# Altium schematic symbol library MCU_Microchip_ATmega.SchLib: 440 symbols (part 4 of 9)
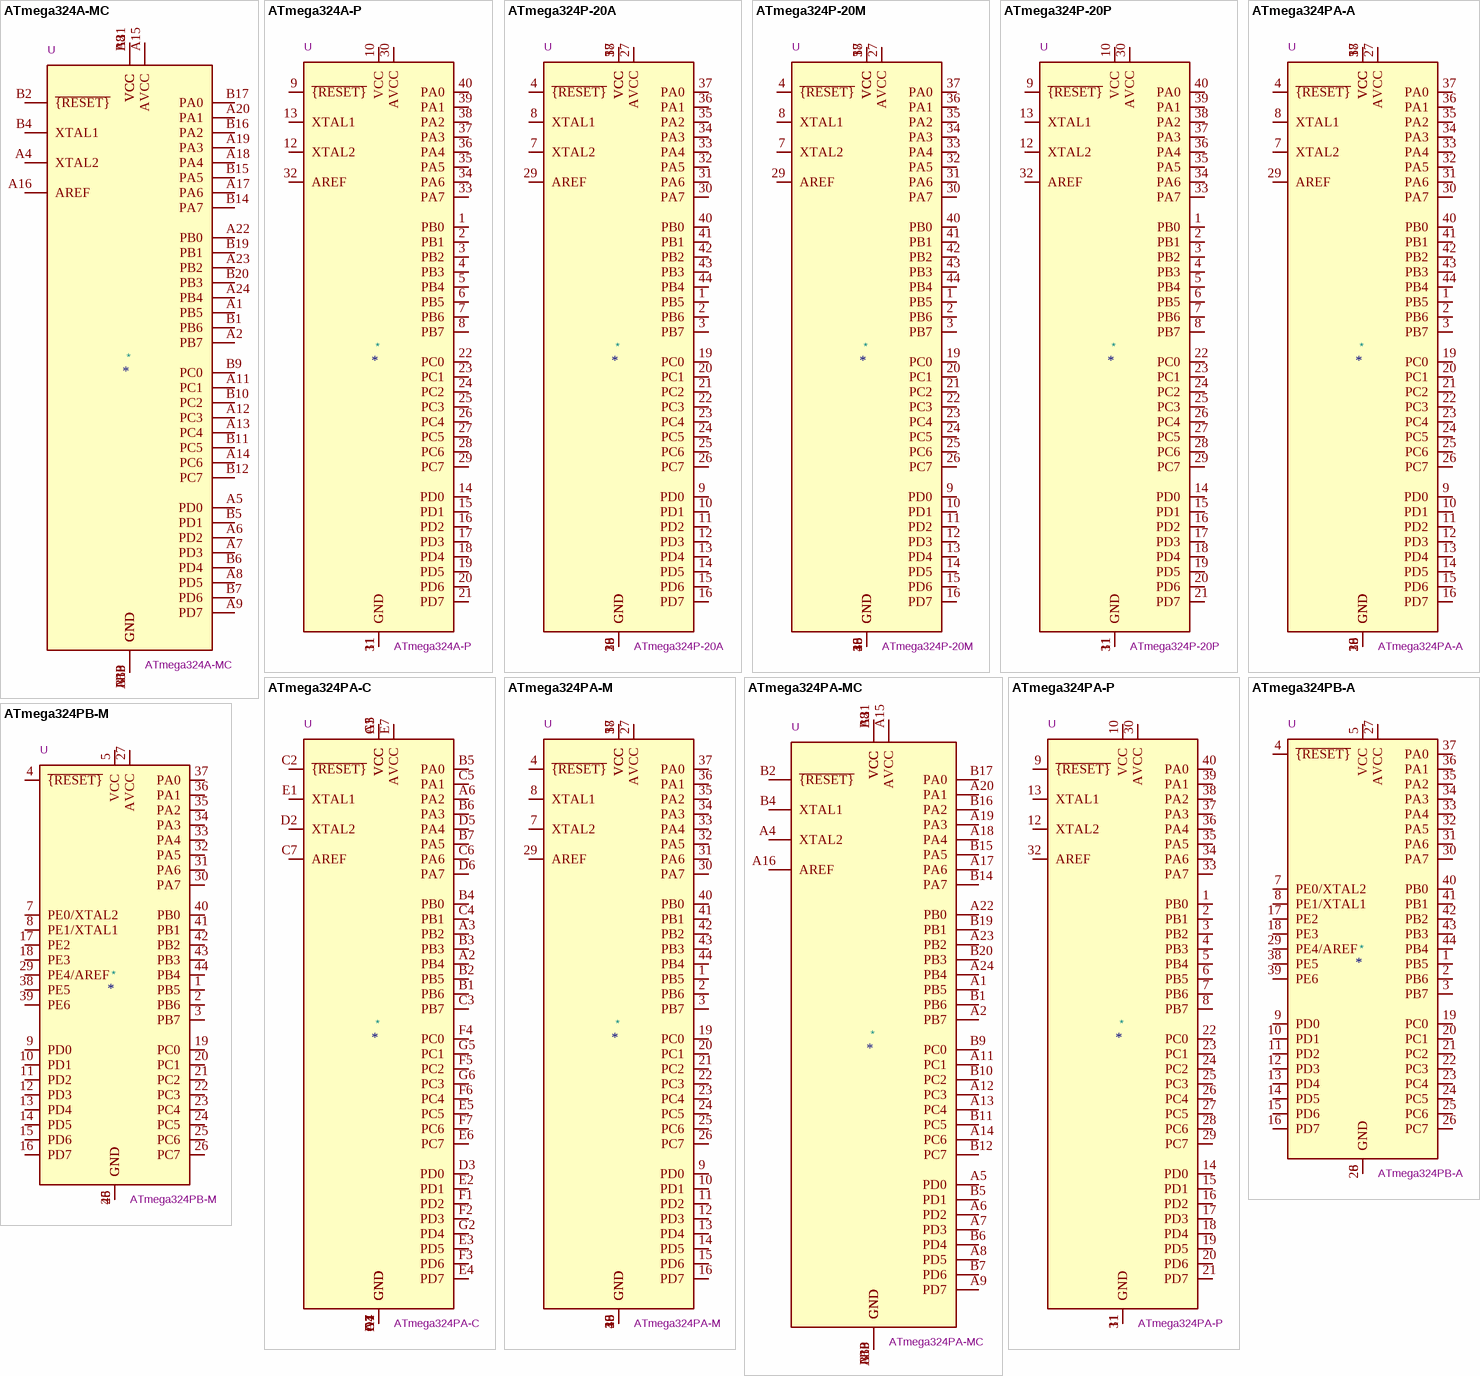
[diagram p43: symbols ATmega324A-MC to ATmega324PB-M]

## ATmega324PA-P
designator *  value ATmega324PA-P  Reference: U
20MHz, 32kB Flash, 2kB SRAM, 1kB EEPROM, JTAG, DIP-40; ki_keywords: AVR 8bit Microcontroller MegaAVR PicoPower; ki_fp_filters: DIP*W15.24mm*; Footprint: Package_DIP:DIP-40_W15.24mm; Datasheet: http://ww1.microchip.com/downloads/en/DeviceDoc/Atmel-8272-8-bit-AVR-microcontroller-ATmega164A_PA-324A_PA-644A_PA-1284_P_datasheet.pdf; Description_: 20MHz, 32kB Flash, 2kB SRAM, 1kB EEPROM, JTAG, DIP-40
pins: 1 PB0, 2 PB1, 3 PB2, 4 PB3, 5 PB4, 6 PB5, 7 PB6, 8 PB7, 9 ~{{RESET}}, 10 VCC, 11 GND, 12 XTAL2, 13 XTAL1, 14 PD0, 15 PD1, 16 PD2, 17 PD3, 18 PD4, 19 PD5, 20 PD6, 21 PD7, 22 PC0, 23 PC1, 24 PC2, 25 PC3, 26 PC4, 27 PC5, 28 PC6, 29 PC7, 30 AVCC, 31 GND, 32 AREF, 33 PA7, 34 PA6, 35 PA5, 36 PA4, 37 PA3, 38 PA2, 39 PA1, 40 PA0

## ATmega324PB-A
designator *  value ATmega324PB-A  Reference: U
20MHz, 32kB Flash, 2kB SRAM, 1kB EEPROM, JTAG, TQFP-44; ki_keywords: AVR 8bit Microcontroller MegaAVR PicoPower; ki_fp_filters: TQFP*10x10mm*P0.8mm*; Footprint: Package_QFP:TQFP-44_10x10mm_P0.8mm; Datasheet: http://ww1.microchip.com/downloads/en/DeviceDoc/40001908A.pdf; Description_: 20MHz, 32kB Flash, 2kB SRAM, 1kB EEPROM, JTAG, TQFP-44
pins: 1 PB5, 2 PB6, 3 PB7, 4 ~{{RESET}}, 5 VCC, 6 GND, 7 PE0/XTAL2, 8 PE1/XTAL1, 9 PD0, 10 PD1, 11 PD2, 12 PD3, 13 PD4, 14 PD5, 15 PD6, 16 PD7, 17 PE2, 18 PE3, 19 PC0, 20 PC1, 21 PC2, 22 PC3, 23 PC4, 24 PC5, 25 PC6, 26 PC7, 27 AVCC, 28 GND, 29 PE4/AREF, 30 PA7, 31 PA6, 32 PA5, 33 PA4, 34 PA3, 35 PA2, 36 PA1, 37 PA0, 38 PE5, 39 PE6, 40 PB0, 41 PB1, 42 PB2, 43 PB3, 44 PB4

## ATmega324PB-M
designator *  value ATmega324PB-M  Reference: U
20MHz, 32kB Flash, 2kB SRAM, 1kB EEPROM, JTAG, QFN-44; ki_keywords: AVR 8bit Microcontroller MegaAVR PicoPower; ki_fp_filters: QFN*7x7mm*P0.5mm*; Footprint: Package_DFN_QFN:QFN-44-1EP_7x7mm_P0.5mm_EP5.2x5.2mm; Datasheet: http://ww1.microchip.com/downloads/en/DeviceDoc/40001908A.pdf; Description_: 20MHz, 32kB Flash, 2kB SRAM, 1kB EEPROM, JTAG, QFN-44
pins: 1 PB5, 2 PB6, 3 PB7, 4 ~{{RESET}}, 5 VCC, 6 GND, 7 PE0/XTAL2, 8 PE1/XTAL1, 9 PD0, 10 PD1, 11 PD2, 12 PD3, 13 PD4, 14 PD5, 15 PD6, 16 PD7, 17 PE2, 18 PE3, 19 PC0, 20 PC1, 21 PC2, 22 PC3, 23 PC4, 24 PC5, 25 PC6, 26 PC7, 27 AVCC, 28 GND, 29 PE4/AREF, 30 PA7, 31 PA6, 32 PA5, 33 PA4, 34 PA3, 35 PA2, 36 PA1, 37 PA0, 38 PE5, 39 PE6, 40 PB0, 41 PB1, 42 PB2, 43 PB3, 44 PB4, 45 GND

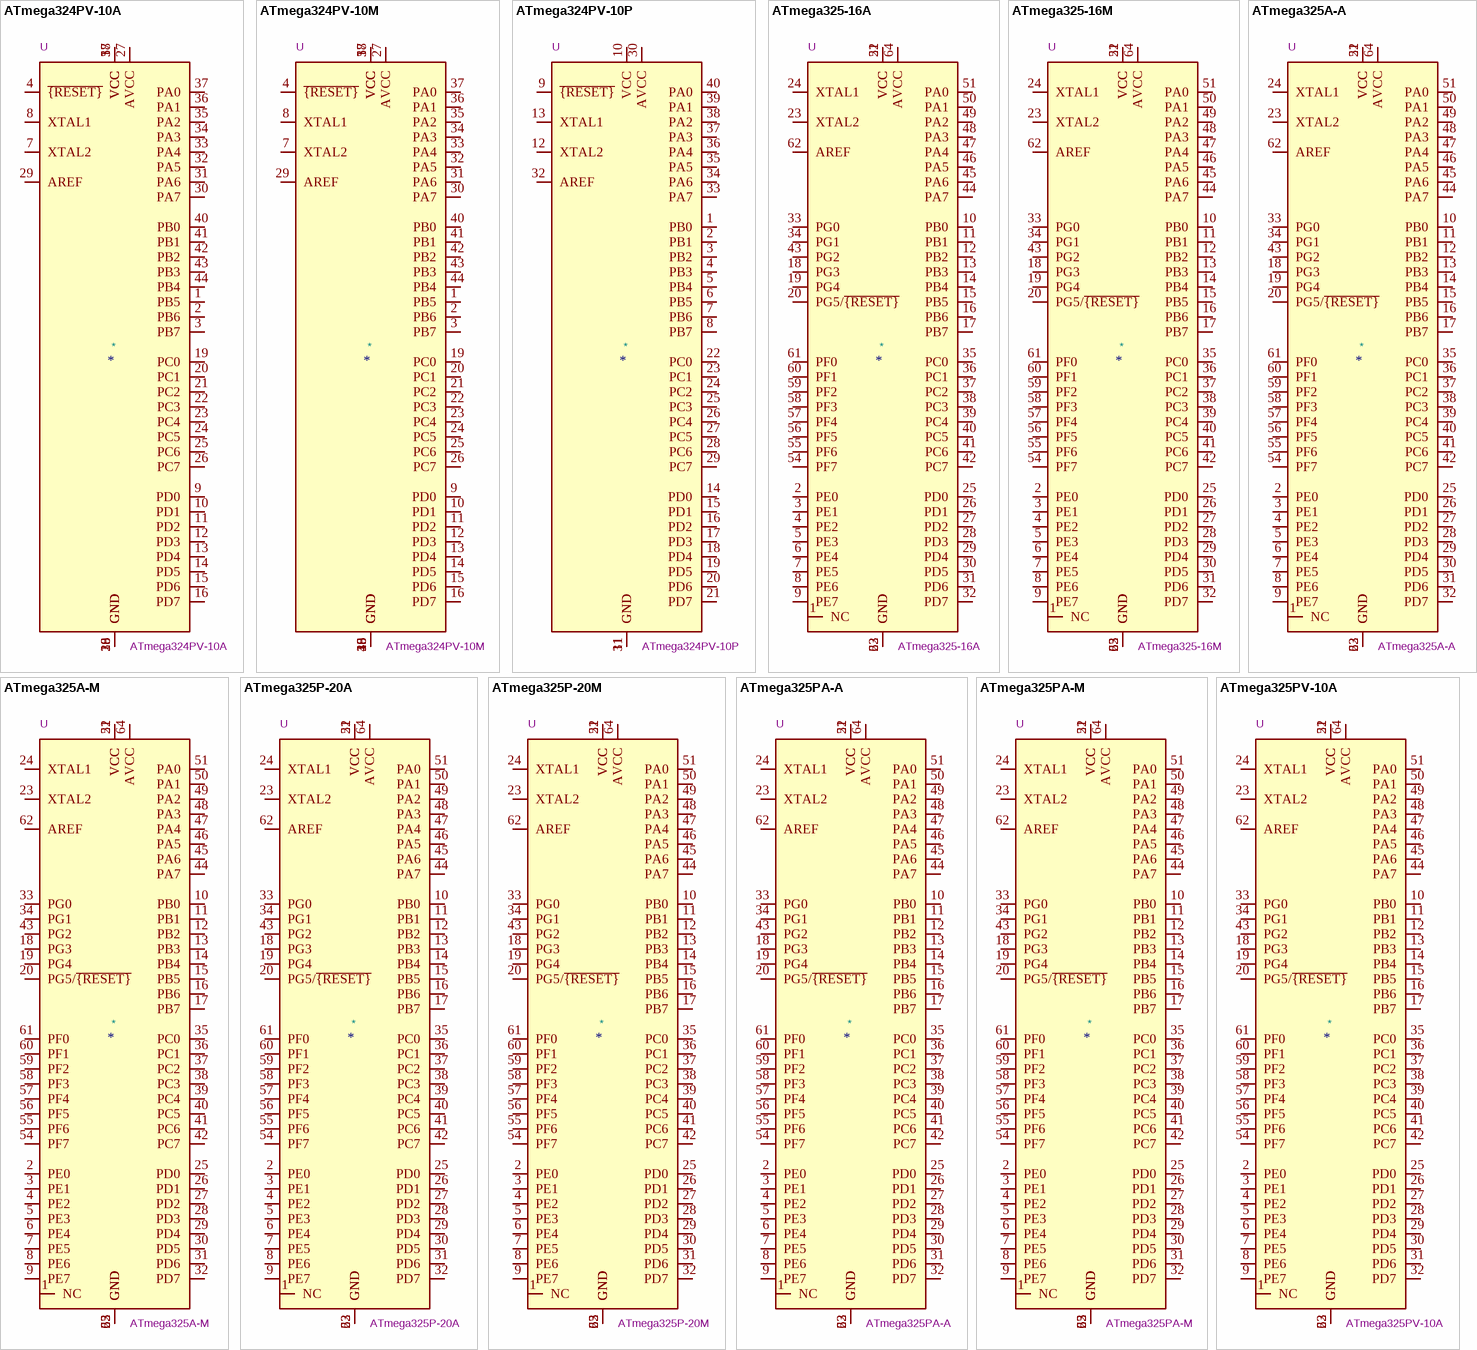
[diagram p15: symbols ATmega324PV-10A to ATmega325PV-10A]

## ATmega324PV-10A
designator *  value ATmega324PV-10A  Reference: U
10MHz, 32kB Flash, 2kB SRAM, 1kB EEPROM, JTAG, TQFP-44; ki_keywords: AVR 8bit Microcontroller MegaAVR PicoPower; ki_fp_filters: TQFP*10x10mm*P0.8mm*; Footprint: Package_QFP:TQFP-44_10x10mm_P0.8mm; Datasheet: http://ww1.microchip.com/downloads/en/DeviceDoc/Atmel-42743-ATmega324P_Datasheet.pdf; Description_: 10MHz, 32kB Flash, 2kB SRAM, 1kB EEPROM, JTAG, TQFP-44
pins: 1 PB5, 2 PB6, 3 PB7, 4 ~{{RESET}}, 5 VCC, 6 GND, 7 XTAL2, 8 XTAL1, 9 PD0, 10 PD1, 11 PD2, 12 PD3, 13 PD4, 14 PD5, 15 PD6, 16 PD7, 17 VCC, 18 GND, 19 PC0, 20 PC1, 21 PC2, 22 PC3, 23 PC4, 24 PC5, 25 PC6, 26 PC7, 27 AVCC, 28 GND, 29 AREF, 30 PA7, 31 PA6, 32 PA5, 33 PA4, 34 PA3, 35 PA2, 36 PA1, 37 PA0, 38 VCC, 39 GND, 40 PB0, 41 PB1, 42 PB2, 43 PB3, 44 PB4

## ATmega324PV-10M
designator *  value ATmega324PV-10M  Reference: U
10MHz, 32kB Flash, 2kB SRAM, 1kB EEPROM, JTAG, QFN-44; ki_keywords: AVR 8bit Microcontroller MegaAVR PicoPower; ki_fp_filters: QFN*1EP*7x7mm*P0.5mm*; Footprint: Package_DFN_QFN:QFN-44-1EP_7x7mm_P0.5mm_EP5.2x5.2mm; Datasheet: http://ww1.microchip.com/downloads/en/DeviceDoc/Atmel-42743-ATmega324P_Datasheet.pdf; Description_: 10MHz, 32kB Flash, 2kB SRAM, 1kB EEPROM, JTAG, QFN-44
pins: 1 PB5, 2 PB6, 3 PB7, 4 ~{{RESET}}, 5 VCC, 6 GND, 7 XTAL2, 8 XTAL1, 9 PD0, 10 PD1, 11 PD2, 12 PD3, 13 PD4, 14 PD5, 15 PD6, 16 PD7, 17 VCC, 18 GND, 19 PC0, 20 PC1, 21 PC2, 22 PC3, 23 PC4, 24 PC5, 25 PC6, 26 PC7, 27 AVCC, 28 GND, 29 AREF, 30 PA7, 31 PA6, 32 PA5, 33 PA4, 34 PA3, 35 PA2, 36 PA1, 37 PA0, 38 VCC, 39 GND, 40 PB0, 41 PB1, 42 PB2, 43 PB3, 44 PB4, 45 GND

## ATmega324PV-10P
designator *  value ATmega324PV-10P  Reference: U
10MHz, 32kB Flash, 2kB SRAM, 1kB EEPROM, JTAG, DIP-40; ki_keywords: AVR 8bit Microcontroller MegaAVR PicoPower; ki_fp_filters: DIP*W15.24mm*; Footprint: Package_DIP:DIP-40_W15.24mm; Datasheet: http://ww1.microchip.com/downloads/en/DeviceDoc/Atmel-42743-ATmega324P_Datasheet.pdf; Description_: 10MHz, 32kB Flash, 2kB SRAM, 1kB EEPROM, JTAG, DIP-40
pins: 1 PB0, 2 PB1, 3 PB2, 4 PB3, 5 PB4, 6 PB5, 7 PB6, 8 PB7, 9 ~{{RESET}}, 10 VCC, 11 GND, 12 XTAL2, 13 XTAL1, 14 PD0, 15 PD1, 16 PD2, 17 PD3, 18 PD4, 19 PD5, 20 PD6, 21 PD7, 22 PC0, 23 PC1, 24 PC2, 25 PC3, 26 PC4, 27 PC5, 28 PC6, 29 PC7, 30 AVCC, 31 GND, 32 AREF, 33 PA7, 34 PA6, 35 PA5, 36 PA4, 37 PA3, 38 PA2, 39 PA1, 40 PA0

## ATmega325-16A
designator *  value ATmega325-16A  Reference: U
16MHz, 32kB Flash, 2kB SRAM, 1kB EEPROM, JTAG, TQFP-64; ki_keywords: AVR 8bit Microcontroller MegaAVR; ki_fp_filters: TQFP*14x14mm*P0.8mm*; Footprint: Package_QFP:TQFP-64_14x14mm_P0.8mm; Datasheet: http://ww1.microchip.com/downloads/en/DeviceDoc/doc2570.pdf; Description_: 16MHz, 32kB Flash, 2kB SRAM, 1kB EEPROM, JTAG, TQFP-64
pins: 1 NC, 2 PE0, 3 PE1, 4 PE2, 5 PE3, 6 PE4, 7 PE5, 8 PE6, 9 PE7, 10 PB0, 11 PB1, 12 PB2, 13 PB3, 14 PB4, 15 PB5, 16 PB6, 17 PB7, 18 PG3, 19 PG4, 20 PG5/~{{RESET}}, 21 VCC, 22 GND, 23 XTAL2, 24 XTAL1, 25 PD0, 26 PD1, 27 PD2, 28 PD3, 29 PD4, 30 PD5, 31 PD6, 32 PD7, 33 PG0, 34 PG1, 35 PC0, 36 PC1, 37 PC2, 38 PC3, 39 PC4, 40 PC5, 41 PC6, 42 PC7, 43 PG2, 44 PA7, 45 PA6, 46 PA5, 47 PA4, 48 PA3, 49 PA2, 50 PA1, 51 PA0, 52 VCC, 53 GND, 54 PF7, 55 PF6, 56 PF5, 57 PF4, 58 PF3, 59 PF2, 60 PF1, 61 PF0, 62 AREF, 63 GND, 64 AVCC

## ATmega325-16M
designator *  value ATmega325-16M  Reference: U
16MHz, 32kB Flash, 2kB SRAM, 1kB EEPROM, JTAG, QFN-64; ki_keywords: AVR 8bit Microcontroller MegaAVR; ki_fp_filters: QFN*1EP*9x9mm*P0.5mm*; Footprint: Package_DFN_QFN:QFN-64-1EP_9x9mm_P0.5mm_EP5.4x5.4mm; Datasheet: http://ww1.microchip.com/downloads/en/DeviceDoc/doc2570.pdf; Description_: 16MHz, 32kB Flash, 2kB SRAM, 1kB EEPROM, JTAG, QFN-64
pins: 1 NC, 2 PE0, 3 PE1, 4 PE2, 5 PE3, 6 PE4, 7 PE5, 8 PE6, 9 PE7, 10 PB0, 11 PB1, 12 PB2, 13 PB3, 14 PB4, 15 PB5, 16 PB6, 17 PB7, 18 PG3, 19 PG4, 20 PG5/~{{RESET}}, 21 VCC, 22 GND, 23 XTAL2, 24 XTAL1, 25 PD0, 26 PD1, 27 PD2, 28 PD3, 29 PD4, 30 PD5, 31 PD6, 32 PD7, 33 PG0, 34 PG1, 35 PC0, 36 PC1, 37 PC2, 38 PC3, 39 PC4, 40 PC5, 41 PC6, 42 PC7, 43 PG2, 44 PA7, 45 PA6, 46 PA5, 47 PA4, 48 PA3, 49 PA2, 50 PA1, 51 PA0, 52 VCC, 53 GND, 54 PF7, 55 PF6, 56 PF5, 57 PF4, 58 PF3, 59 PF2, 60 PF1, 61 PF0, 62 AREF, 63 GND, 64 AVCC, 65 GND

## ATmega325A-A
designator *  value ATmega325A-A  Reference: U
20MHz, 32kB Flash, 2kB SRAM, 1kB EEPROM, TQFP-64; ki_keywords: AVR 8bit Microcontroller MegaAVR PicoPower; ki_fp_filters: TQFP*14x14mm*P0.8mm*; Footprint: Package_QFP:TQFP-64_14x14mm_P0.8mm; Datasheet: http://ww1.microchip.com/downloads/en/DeviceDoc/atmel-8285-8-bit-avr-microcontroller-atmega165a_pa_325a_pa_3250a_pa_645a_p_6450a_p_datasheet.pdf; Description_: 20MHz, 32kB Flash, 2kB SRAM, 1kB EEPROM, TQFP-64
pins: 1 NC, 2 PE0, 3 PE1, 4 PE2, 5 PE3, 6 PE4, 7 PE5, 8 PE6, 9 PE7, 10 PB0, 11 PB1, 12 PB2, 13 PB3, 14 PB4, 15 PB5, 16 PB6, 17 PB7, 18 PG3, 19 PG4, 20 PG5/~{{RESET}}, 21 VCC, 22 GND, 23 XTAL2, 24 XTAL1, 25 PD0, 26 PD1, 27 PD2, 28 PD3, 29 PD4, 30 PD5, 31 PD6, 32 PD7, 33 PG0, 34 PG1, 35 PC0, 36 PC1, 37 PC2, 38 PC3, 39 PC4, 40 PC5, 41 PC6, 42 PC7, 43 PG2, 44 PA7, 45 PA6, 46 PA5, 47 PA4, 48 PA3, 49 PA2, 50 PA1, 51 PA0, 52 VCC, 53 GND, 54 PF7, 55 PF6, 56 PF5, 57 PF4, 58 PF3, 59 PF2, 60 PF1, 61 PF0, 62 AREF, 63 GND, 64 AVCC

## ATmega325A-M
designator *  value ATmega325A-M  Reference: U
20MHz, 32kB Flash, 2kB SRAM, 1kB EEPROM, QFN-64; ki_keywords: AVR 8bit Microcontroller MegaAVR PicoPower; ki_fp_filters: QFN*1EP*9x9mm*P0.5mm*; Footprint: Package_DFN_QFN:QFN-64-1EP_9x9mm_P0.5mm_EP5.4x5.4mm; Datasheet: http://ww1.microchip.com/downloads/en/DeviceDoc/atmel-8285-8-bit-avr-microcontroller-atmega165a_pa_325a_pa_3250a_pa_645a_p_6450a_p_datasheet.pdf; Description_: 20MHz, 32kB Flash, 2kB SRAM, 1kB EEPROM, QFN-64
pins: 1 NC, 2 PE0, 3 PE1, 4 PE2, 5 PE3, 6 PE4, 7 PE5, 8 PE6, 9 PE7, 10 PB0, 11 PB1, 12 PB2, 13 PB3, 14 PB4, 15 PB5, 16 PB6, 17 PB7, 18 PG3, 19 PG4, 20 PG5/~{{RESET}}, 21 VCC, 22 GND, 23 XTAL2, 24 XTAL1, 25 PD0, 26 PD1, 27 PD2, 28 PD3, 29 PD4, 30 PD5, 31 PD6, 32 PD7, 33 PG0, 34 PG1, 35 PC0, 36 PC1, 37 PC2, 38 PC3, 39 PC4, 40 PC5, 41 PC6, 42 PC7, 43 PG2, 44 PA7, 45 PA6, 46 PA5, 47 PA4, 48 PA3, 49 PA2, 50 PA1, 51 PA0, 52 VCC, 53 GND, 54 PF7, 55 PF6, 56 PF5, 57 PF4, 58 PF3, 59 PF2, 60 PF1, 61 PF0, 62 AREF, 63 GND, 64 AVCC, 65 GND

## ATmega325P-20A
designator *  value ATmega325P-20A  Reference: U
20MHz, 32kB Flash, 2kB SRAM, 1kB EEPROM, JTAG, TQFP-64; ki_keywords: AVR 8bit Microcontroller MegaAVR; ki_fp_filters: TQFP*14x14mm*P0.8mm*; Footprint: Package_QFP:TQFP-64_14x14mm_P0.8mm; Datasheet: http://ww1.microchip.com/downloads/en/DeviceDoc/doc8023.pdf; Description_: 20MHz, 32kB Flash, 2kB SRAM, 1kB EEPROM, JTAG, TQFP-64
pins: 1 NC, 2 PE0, 3 PE1, 4 PE2, 5 PE3, 6 PE4, 7 PE5, 8 PE6, 9 PE7, 10 PB0, 11 PB1, 12 PB2, 13 PB3, 14 PB4, 15 PB5, 16 PB6, 17 PB7, 18 PG3, 19 PG4, 20 PG5/~{{RESET}}, 21 VCC, 22 GND, 23 XTAL2, 24 XTAL1, 25 PD0, 26 PD1, 27 PD2, 28 PD3, 29 PD4, 30 PD5, 31 PD6, 32 PD7, 33 PG0, 34 PG1, 35 PC0, 36 PC1, 37 PC2, 38 PC3, 39 PC4, 40 PC5, 41 PC6, 42 PC7, 43 PG2, 44 PA7, 45 PA6, 46 PA5, 47 PA4, 48 PA3, 49 PA2, 50 PA1, 51 PA0, 52 VCC, 53 GND, 54 PF7, 55 PF6, 56 PF5, 57 PF4, 58 PF3, 59 PF2, 60 PF1, 61 PF0, 62 AREF, 63 GND, 64 AVCC

## ATmega325P-20M
designator *  value ATmega325P-20M  Reference: U
20MHz, 32kB Flash, 2kB SRAM, 1kB EEPROM, JTAG, QFN-64; ki_keywords: AVR 8bit Microcontroller MegaAVR; ki_fp_filters: QFN*1EP*9x9mm*P0.5mm*; Footprint: Package_DFN_QFN:QFN-64-1EP_9x9mm_P0.5mm_EP5.4x5.4mm; Datasheet: http://ww1.microchip.com/downloads/en/DeviceDoc/doc8023.pdf; Description_: 20MHz, 32kB Flash, 2kB SRAM, 1kB EEPROM, JTAG, QFN-64
pins: 1 NC, 2 PE0, 3 PE1, 4 PE2, 5 PE3, 6 PE4, 7 PE5, 8 PE6, 9 PE7, 10 PB0, 11 PB1, 12 PB2, 13 PB3, 14 PB4, 15 PB5, 16 PB6, 17 PB7, 18 PG3, 19 PG4, 20 PG5/~{{RESET}}, 21 VCC, 22 GND, 23 XTAL2, 24 XTAL1, 25 PD0, 26 PD1, 27 PD2, 28 PD3, 29 PD4, 30 PD5, 31 PD6, 32 PD7, 33 PG0, 34 PG1, 35 PC0, 36 PC1, 37 PC2, 38 PC3, 39 PC4, 40 PC5, 41 PC6, 42 PC7, 43 PG2, 44 PA7, 45 PA6, 46 PA5, 47 PA4, 48 PA3, 49 PA2, 50 PA1, 51 PA0, 52 VCC, 53 GND, 54 PF7, 55 PF6, 56 PF5, 57 PF4, 58 PF3, 59 PF2, 60 PF1, 61 PF0, 62 AREF, 63 GND, 64 AVCC, 65 GND

## ATmega325PA-A
designator *  value ATmega325PA-A  Reference: U
20MHz, 32kB Flash, 2kB SRAM, 1kB EEPROM, TQFP-64; ki_keywords: AVR 8bit Microcontroller MegaAVR PicoPower; ki_fp_filters: TQFP*14x14mm*P0.8mm*; Footprint: Package_QFP:TQFP-64_14x14mm_P0.8mm; Datasheet: http://ww1.microchip.com/downloads/en/DeviceDoc/atmel-8285-8-bit-avr-microcontroller-atmega165a_pa_325a_pa_3250a_pa_645a_p_6450a_p_datasheet.pdf; Description_: 20MHz, 32kB Flash, 2kB SRAM, 1kB EEPROM, TQFP-64
pins: 1 NC, 2 PE0, 3 PE1, 4 PE2, 5 PE3, 6 PE4, 7 PE5, 8 PE6, 9 PE7, 10 PB0, 11 PB1, 12 PB2, 13 PB3, 14 PB4, 15 PB5, 16 PB6, 17 PB7, 18 PG3, 19 PG4, 20 PG5/~{{RESET}}, 21 VCC, 22 GND, 23 XTAL2, 24 XTAL1, 25 PD0, 26 PD1, 27 PD2, 28 PD3, 29 PD4, 30 PD5, 31 PD6, 32 PD7, 33 PG0, 34 PG1, 35 PC0, 36 PC1, 37 PC2, 38 PC3, 39 PC4, 40 PC5, 41 PC6, 42 PC7, 43 PG2, 44 PA7, 45 PA6, 46 PA5, 47 PA4, 48 PA3, 49 PA2, 50 PA1, 51 PA0, 52 VCC, 53 GND, 54 PF7, 55 PF6, 56 PF5, 57 PF4, 58 PF3, 59 PF2, 60 PF1, 61 PF0, 62 AREF, 63 GND, 64 AVCC

## ATmega325PA-M
designator *  value ATmega325PA-M  Reference: U
20MHz, 32kB Flash, 2kB SRAM, 1kB EEPROM, QFN-64; ki_keywords: AVR 8bit Microcontroller MegaAVR PicoPower; ki_fp_filters: QFN*1EP*9x9mm*P0.5mm*; Footprint: Package_DFN_QFN:QFN-64-1EP_9x9mm_P0.5mm_EP5.4x5.4mm; Datasheet: http://ww1.microchip.com/downloads/en/DeviceDoc/atmel-8285-8-bit-avr-microcontroller-atmega165a_pa_325a_pa_3250a_pa_645a_p_6450a_p_datasheet.pdf; Description_: 20MHz, 32kB Flash, 2kB SRAM, 1kB EEPROM, QFN-64
pins: 1 NC, 2 PE0, 3 PE1, 4 PE2, 5 PE3, 6 PE4, 7 PE5, 8 PE6, 9 PE7, 10 PB0, 11 PB1, 12 PB2, 13 PB3, 14 PB4, 15 PB5, 16 PB6, 17 PB7, 18 PG3, 19 PG4, 20 PG5/~{{RESET}}, 21 VCC, 22 GND, 23 XTAL2, 24 XTAL1, 25 PD0, 26 PD1, 27 PD2, 28 PD3, 29 PD4, 30 PD5, 31 PD6, 32 PD7, 33 PG0, 34 PG1, 35 PC0, 36 PC1, 37 PC2, 38 PC3, 39 PC4, 40 PC5, 41 PC6, 42 PC7, 43 PG2, 44 PA7, 45 PA6, 46 PA5, 47 PA4, 48 PA3, 49 PA2, 50 PA1, 51 PA0, 52 VCC, 53 GND, 54 PF7, 55 PF6, 56 PF5, 57 PF4, 58 PF3, 59 PF2, 60 PF1, 61 PF0, 62 AREF, 63 GND, 64 AVCC, 65 GND

## ATmega325PV-10A
designator *  value ATmega325PV-10A  Reference: U
10MHz, 32kB Flash, 2kB SRAM, 1kB EEPROM, JTAG, TQFP-64; ki_keywords: AVR 8bit Microcontroller MegaAVR; ki_fp_filters: TQFP*14x14mm*P0.8mm*; Footprint: Package_QFP:TQFP-64_14x14mm_P0.8mm; Datasheet: http://ww1.microchip.com/downloads/en/DeviceDoc/doc8023.pdf; Description_: 10MHz, 32kB Flash, 2kB SRAM, 1kB EEPROM, JTAG, TQFP-64
pins: 1 NC, 2 PE0, 3 PE1, 4 PE2, 5 PE3, 6 PE4, 7 PE5, 8 PE6, 9 PE7, 10 PB0, 11 PB1, 12 PB2, 13 PB3, 14 PB4, 15 PB5, 16 PB6, 17 PB7, 18 PG3, 19 PG4, 20 PG5/~{{RESET}}, 21 VCC, 22 GND, 23 XTAL2, 24 XTAL1, 25 PD0, 26 PD1, 27 PD2, 28 PD3, 29 PD4, 30 PD5, 31 PD6, 32 PD7, 33 PG0, 34 PG1, 35 PC0, 36 PC1, 37 PC2, 38 PC3, 39 PC4, 40 PC5, 41 PC6, 42 PC7, 43 PG2, 44 PA7, 45 PA6, 46 PA5, 47 PA4, 48 PA3, 49 PA2, 50 PA1, 51 PA0, 52 VCC, 53 GND, 54 PF7, 55 PF6, 56 PF5, 57 PF4, 58 PF3, 59 PF2, 60 PF1, 61 PF0, 62 AREF, 63 GND, 64 AVCC

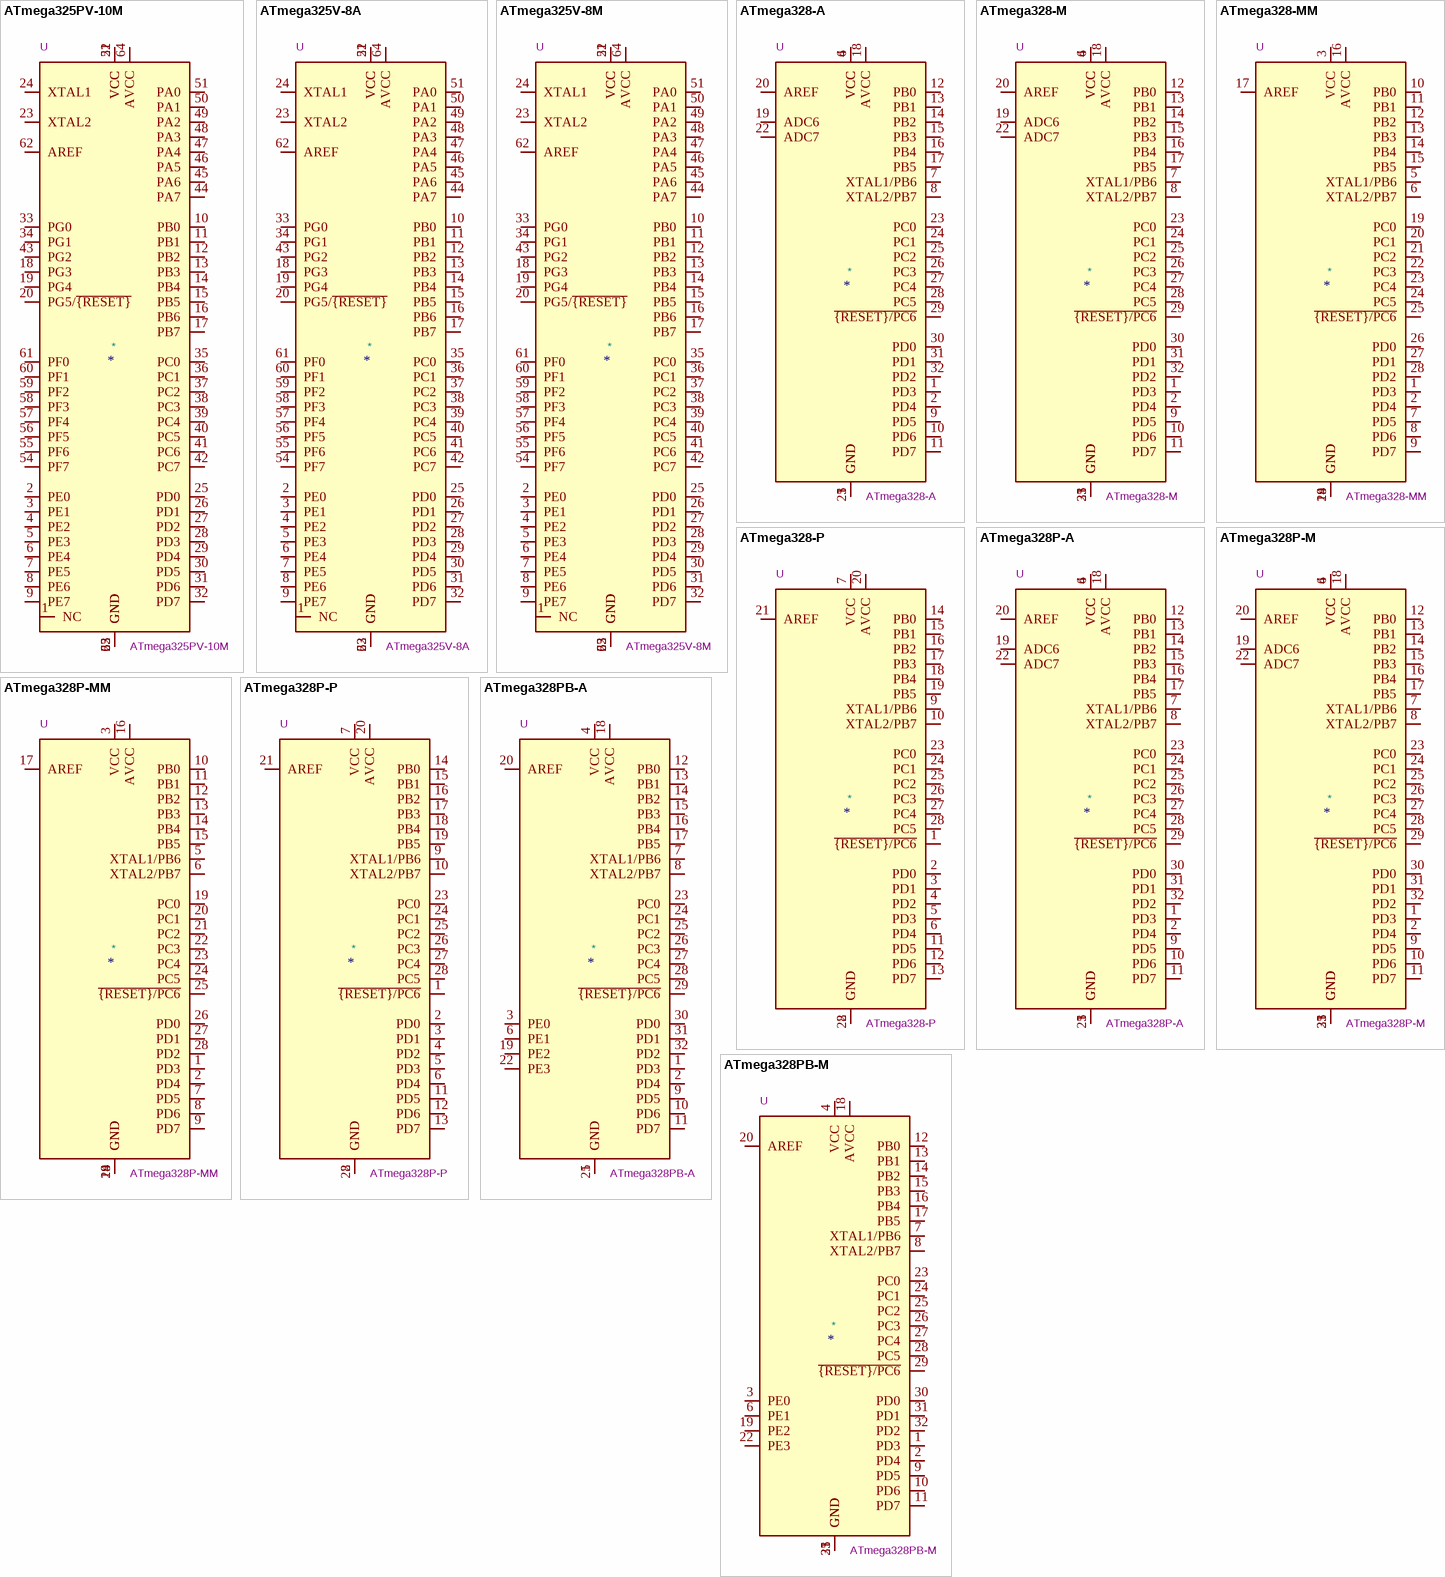
[diagram p16: symbols ATmega325PV-10M to ATmega328PB-M]

## ATmega325PV-10M
designator *  value ATmega325PV-10M  Reference: U
10MHz, 32kB Flash, 2kB SRAM, 1kB EEPROM, JTAG, QFN-64; ki_keywords: AVR 8bit Microcontroller MegaAVR; ki_fp_filters: QFN*1EP*9x9mm*P0.5mm*; Footprint: Package_DFN_QFN:QFN-64-1EP_9x9mm_P0.5mm_EP5.4x5.4mm; Datasheet: http://ww1.microchip.com/downloads/en/DeviceDoc/doc8023.pdf; Description_: 10MHz, 32kB Flash, 2kB SRAM, 1kB EEPROM, JTAG, QFN-64
pins: 1 NC, 2 PE0, 3 PE1, 4 PE2, 5 PE3, 6 PE4, 7 PE5, 8 PE6, 9 PE7, 10 PB0, 11 PB1, 12 PB2, 13 PB3, 14 PB4, 15 PB5, 16 PB6, 17 PB7, 18 PG3, 19 PG4, 20 PG5/~{{RESET}}, 21 VCC, 22 GND, 23 XTAL2, 24 XTAL1, 25 PD0, 26 PD1, 27 PD2, 28 PD3, 29 PD4, 30 PD5, 31 PD6, 32 PD7, 33 PG0, 34 PG1, 35 PC0, 36 PC1, 37 PC2, 38 PC3, 39 PC4, 40 PC5, 41 PC6, 42 PC7, 43 PG2, 44 PA7, 45 PA6, 46 PA5, 47 PA4, 48 PA3, 49 PA2, 50 PA1, 51 PA0, 52 VCC, 53 GND, 54 PF7, 55 PF6, 56 PF5, 57 PF4, 58 PF3, 59 PF2, 60 PF1, 61 PF0, 62 AREF, 63 GND, 64 AVCC, 65 GND

## ATmega325V-8A
designator *  value ATmega325V-8A  Reference: U
8MHz, 32kB Flash, 2kB SRAM, 1kB EEPROM, JTAG, TQFP-64; ki_keywords: AVR 8bit Microcontroller MegaAVR; ki_fp_filters: TQFP*14x14mm*P0.8mm*; Footprint: Package_QFP:TQFP-64_14x14mm_P0.8mm; Datasheet: http://ww1.microchip.com/downloads/en/DeviceDoc/doc2570.pdf; Description_: 8MHz, 32kB Flash, 2kB SRAM, 1kB EEPROM, JTAG, TQFP-64
pins: 1 NC, 2 PE0, 3 PE1, 4 PE2, 5 PE3, 6 PE4, 7 PE5, 8 PE6, 9 PE7, 10 PB0, 11 PB1, 12 PB2, 13 PB3, 14 PB4, 15 PB5, 16 PB6, 17 PB7, 18 PG3, 19 PG4, 20 PG5/~{{RESET}}, 21 VCC, 22 GND, 23 XTAL2, 24 XTAL1, 25 PD0, 26 PD1, 27 PD2, 28 PD3, 29 PD4, 30 PD5, 31 PD6, 32 PD7, 33 PG0, 34 PG1, 35 PC0, 36 PC1, 37 PC2, 38 PC3, 39 PC4, 40 PC5, 41 PC6, 42 PC7, 43 PG2, 44 PA7, 45 PA6, 46 PA5, 47 PA4, 48 PA3, 49 PA2, 50 PA1, 51 PA0, 52 VCC, 53 GND, 54 PF7, 55 PF6, 56 PF5, 57 PF4, 58 PF3, 59 PF2, 60 PF1, 61 PF0, 62 AREF, 63 GND, 64 AVCC

## ATmega325V-8M
designator *  value ATmega325V-8M  Reference: U
8MHz, 32kB Flash, 2kB SRAM, 1kB EEPROM, JTAG, QFN-64; ki_keywords: AVR 8bit Microcontroller MegaAVR; ki_fp_filters: QFN*1EP*9x9mm*P0.5mm*; Footprint: Package_DFN_QFN:QFN-64-1EP_9x9mm_P0.5mm_EP5.4x5.4mm; Datasheet: http://ww1.microchip.com/downloads/en/DeviceDoc/doc2570.pdf; Description_: 8MHz, 32kB Flash, 2kB SRAM, 1kB EEPROM, JTAG, QFN-64
pins: 1 NC, 2 PE0, 3 PE1, 4 PE2, 5 PE3, 6 PE4, 7 PE5, 8 PE6, 9 PE7, 10 PB0, 11 PB1, 12 PB2, 13 PB3, 14 PB4, 15 PB5, 16 PB6, 17 PB7, 18 PG3, 19 PG4, 20 PG5/~{{RESET}}, 21 VCC, 22 GND, 23 XTAL2, 24 XTAL1, 25 PD0, 26 PD1, 27 PD2, 28 PD3, 29 PD4, 30 PD5, 31 PD6, 32 PD7, 33 PG0, 34 PG1, 35 PC0, 36 PC1, 37 PC2, 38 PC3, 39 PC4, 40 PC5, 41 PC6, 42 PC7, 43 PG2, 44 PA7, 45 PA6, 46 PA5, 47 PA4, 48 PA3, 49 PA2, 50 PA1, 51 PA0, 52 VCC, 53 GND, 54 PF7, 55 PF6, 56 PF5, 57 PF4, 58 PF3, 59 PF2, 60 PF1, 61 PF0, 62 AREF, 63 GND, 64 AVCC, 65 GND

## ATmega328-A
designator *  value ATmega328-A  Reference: U
20MHz, 32kB Flash, 2kB SRAM, 1kB EEPROM, TQFP-32; ki_keywords: AVR 8bit Microcontroller MegaAVR; ki_fp_filters: TQFP*7x7mm*P0.8mm*; Footprint: Package_QFP:TQFP-32_7x7mm_P0.8mm; Datasheet: http://ww1.microchip.com/downloads/en/DeviceDoc/ATmega328_P%20AVR%20MCU%20with%20picoPower%20Technology%20Data%20Sheet%2040001984A.pdf; Description_: 20MHz, 32kB Flash, 2kB SRAM, 1kB EEPROM, TQFP-32
pins: 1 PD3, 2 PD4, 3 GND, 4 VCC, 5 GND, 6 VCC, 7 XTAL1/PB6, 8 XTAL2/PB7, 9 PD5, 10 PD6, 11 PD7, 12 PB0, 13 PB1, 14 PB2, 15 PB3, 16 PB4, 17 PB5, 18 AVCC, 19 ADC6, 20 AREF, 21 GND, 22 ADC7, 23 PC0, 24 PC1, 25 PC2, 26 PC3, 27 PC4, 28 PC5, 29 ~{{RESET}/PC6}, 30 PD0, 31 PD1, 32 PD2

## ATmega328-M
designator *  value ATmega328-M  Reference: U
20MHz, 32kB Flash, 2kB SRAM, 1kB EEPROM, QFN-32; ki_keywords: AVR 8bit Microcontroller MegaAVR; ki_fp_filters: QFN*1EP*5x5mm*P0.5mm*; Footprint: Package_DFN_QFN:QFN-32-1EP_5x5mm_P0.5mm_EP3.1x3.1mm; Datasheet: http://ww1.microchip.com/downloads/en/DeviceDoc/ATmega328_P%20AVR%20MCU%20with%20picoPower%20Technology%20Data%20Sheet%2040001984A.pdf; Description_: 20MHz, 32kB Flash, 2kB SRAM, 1kB EEPROM, QFN-32
pins: 1 PD3, 2 PD4, 3 GND, 4 VCC, 5 GND, 6 VCC, 7 XTAL1/PB6, 8 XTAL2/PB7, 9 PD5, 10 PD6, 11 PD7, 12 PB0, 13 PB1, 14 PB2, 15 PB3, 16 PB4, 17 PB5, 18 AVCC, 19 ADC6, 20 AREF, 21 GND, 22 ADC7, 23 PC0, 24 PC1, 25 PC2, 26 PC3, 27 PC4, 28 PC5, 29 ~{{RESET}/PC6}, 30 PD0, 31 PD1, 32 PD2, 33 GND

## ATmega328-MM
designator *  value ATmega328-MM  Reference: U
20MHz, 32kB Flash, 2kB SRAM, 1kB EEPROM, QFN-28; ki_keywords: AVR 8bit Microcontroller MegaAVR; ki_fp_filters: QFN*1EP*4x4mm*P0.45mm*; Footprint: Package_DFN_QFN:QFN-28-1EP_4x4mm_P0.45mm_EP2.4x2.4mm; Datasheet: http://ww1.microchip.com/downloads/en/DeviceDoc/ATmega328_P%20AVR%20MCU%20with%20picoPower%20Technology%20Data%20Sheet%2040001984A.pdf; Description_: 20MHz, 32kB Flash, 2kB SRAM, 1kB EEPROM, QFN-28
pins: 1 PD3, 2 PD4, 3 VCC, 4 GND, 5 XTAL1/PB6, 6 XTAL2/PB7, 7 PD5, 8 PD6, 9 PD7, 10 PB0, 11 PB1, 12 PB2, 13 PB3, 14 PB4, 15 PB5, 16 AVCC, 17 AREF, 18 GND, 19 PC0, 20 PC1, 21 PC2, 22 PC3, 23 PC4, 24 PC5, 25 ~{{RESET}/PC6}, 26 PD0, 27 PD1, 28 PD2, 29 GND

## ATmega328-P
designator *  value ATmega328-P  Reference: U
20MHz, 32kB Flash, 2kB SRAM, 1kB EEPROM, DIP-28; ki_keywords: AVR 8bit Microcontroller MegaAVR; ki_fp_filters: DIP*W7.62mm*; Footprint: Package_DIP:DIP-28_W7.62mm; Datasheet: http://ww1.microchip.com/downloads/en/DeviceDoc/ATmega328_P%20AVR%20MCU%20with%20picoPower%20Technology%20Data%20Sheet%2040001984A.pdf; Description_: 20MHz, 32kB Flash, 2kB SRAM, 1kB EEPROM, DIP-28
pins: 1 ~{{RESET}/PC6}, 2 PD0, 3 PD1, 4 PD2, 5 PD3, 6 PD4, 7 VCC, 8 GND, 9 XTAL1/PB6, 10 XTAL2/PB7, 11 PD5, 12 PD6, 13 PD7, 14 PB0, 15 PB1, 16 PB2, 17 PB3, 18 PB4, 19 PB5, 20 AVCC, 21 AREF, 22 GND, 23 PC0, 24 PC1, 25 PC2, 26 PC3, 27 PC4, 28 PC5

## ATmega328P-A
designator *  value ATmega328P-A  Reference: U
20MHz, 32kB Flash, 2kB SRAM, 1kB EEPROM, TQFP-32; ki_keywords: AVR 8bit Microcontroller MegaAVR PicoPower; ki_fp_filters: TQFP*7x7mm*P0.8mm*; Footprint: Package_QFP:TQFP-32_7x7mm_P0.8mm; Datasheet: http://ww1.microchip.com/downloads/en/DeviceDoc/ATmega328_P%20AVR%20MCU%20with%20picoPower%20Technology%20Data%20Sheet%2040001984A.pdf; Description_: 20MHz, 32kB Flash, 2kB SRAM, 1kB EEPROM, TQFP-32
pins: 1 PD3, 2 PD4, 3 GND, 4 VCC, 5 GND, 6 VCC, 7 XTAL1/PB6, 8 XTAL2/PB7, 9 PD5, 10 PD6, 11 PD7, 12 PB0, 13 PB1, 14 PB2, 15 PB3, 16 PB4, 17 PB5, 18 AVCC, 19 ADC6, 20 AREF, 21 GND, 22 ADC7, 23 PC0, 24 PC1, 25 PC2, 26 PC3, 27 PC4, 28 PC5, 29 ~{{RESET}/PC6}, 30 PD0, 31 PD1, 32 PD2

## ATmega328P-M
designator *  value ATmega328P-M  Reference: U
20MHz, 32kB Flash, 2kB SRAM, 1kB EEPROM, QFN-32; ki_keywords: AVR 8bit Microcontroller MegaAVR PicoPower; ki_fp_filters: QFN*1EP*5x5mm*P0.5mm*; Footprint: Package_DFN_QFN:QFN-32-1EP_5x5mm_P0.5mm_EP3.1x3.1mm; Datasheet: http://ww1.microchip.com/downloads/en/DeviceDoc/ATmega328_P%20AVR%20MCU%20with%20picoPower%20Technology%20Data%20Sheet%2040001984A.pdf; Description_: 20MHz, 32kB Flash, 2kB SRAM, 1kB EEPROM, QFN-32
pins: 1 PD3, 2 PD4, 3 GND, 4 VCC, 5 GND, 6 VCC, 7 XTAL1/PB6, 8 XTAL2/PB7, 9 PD5, 10 PD6, 11 PD7, 12 PB0, 13 PB1, 14 PB2, 15 PB3, 16 PB4, 17 PB5, 18 AVCC, 19 ADC6, 20 AREF, 21 GND, 22 ADC7, 23 PC0, 24 PC1, 25 PC2, 26 PC3, 27 PC4, 28 PC5, 29 ~{{RESET}/PC6}, 30 PD0, 31 PD1, 32 PD2, 33 GND

## ATmega328P-MM
designator *  value ATmega328P-MM  Reference: U
20MHz, 32kB Flash, 2kB SRAM, 1kB EEPROM, QFN-28; ki_keywords: AVR 8bit Microcontroller MegaAVR; ki_fp_filters: QFN*1EP*4x4mm*P0.45mm*; Footprint: Package_DFN_QFN:QFN-28-1EP_4x4mm_P0.45mm_EP2.4x2.4mm; Datasheet: http://ww1.microchip.com/downloads/en/DeviceDoc/ATmega328_P%20AVR%20MCU%20with%20picoPower%20Technology%20Data%20Sheet%2040001984A.pdf; Description_: 20MHz, 32kB Flash, 2kB SRAM, 1kB EEPROM, QFN-28
pins: 1 PD3, 2 PD4, 3 VCC, 4 GND, 5 XTAL1/PB6, 6 XTAL2/PB7, 7 PD5, 8 PD6, 9 PD7, 10 PB0, 11 PB1, 12 PB2, 13 PB3, 14 PB4, 15 PB5, 16 AVCC, 17 AREF, 18 GND, 19 PC0, 20 PC1, 21 PC2, 22 PC3, 23 PC4, 24 PC5, 25 ~{{RESET}/PC6}, 26 PD0, 27 PD1, 28 PD2, 29 GND

## ATmega328P-P
designator *  value ATmega328P-P  Reference: U
20MHz, 32kB Flash, 2kB SRAM, 1kB EEPROM, DIP-28; ki_keywords: AVR 8bit Microcontroller MegaAVR PicoPower; ki_fp_filters: DIP*W7.62mm*; Footprint: Package_DIP:DIP-28_W7.62mm; Datasheet: http://ww1.microchip.com/downloads/en/DeviceDoc/ATmega328_P%20AVR%20MCU%20with%20picoPower%20Technology%20Data%20Sheet%2040001984A.pdf; Description_: 20MHz, 32kB Flash, 2kB SRAM, 1kB EEPROM, DIP-28
pins: 1 ~{{RESET}/PC6}, 2 PD0, 3 PD1, 4 PD2, 5 PD3, 6 PD4, 7 VCC, 8 GND, 9 XTAL1/PB6, 10 XTAL2/PB7, 11 PD5, 12 PD6, 13 PD7, 14 PB0, 15 PB1, 16 PB2, 17 PB3, 18 PB4, 19 PB5, 20 AVCC, 21 AREF, 22 GND, 23 PC0, 24 PC1, 25 PC2, 26 PC3, 27 PC4, 28 PC5

## ATmega328PB-A
designator *  value ATmega328PB-A  Reference: U
20MHz, 32kB Flash, 2kB SRAM, 1kB EEPROM, TQFP-32; ki_keywords: AVR 8bit Microcontroller MegaAVR; ki_fp_filters: TQFP*7x7mm*P0.8mm*; Footprint: Package_QFP:TQFP-32_7x7mm_P0.8mm; Datasheet: http://ww1.microchip.com/downloads/en/DeviceDoc/40001906C.pdf; Description_: 20MHz, 32kB Flash, 2kB SRAM, 1kB EEPROM, TQFP-32
pins: 1 PD3, 2 PD4, 3 PE0, 4 VCC, 5 GND, 6 PE1, 7 XTAL1/PB6, 8 XTAL2/PB7, 9 PD5, 10 PD6, 11 PD7, 12 PB0, 13 PB1, 14 PB2, 15 PB3, 16 PB4, 17 PB5, 18 AVCC, 19 PE2, 20 AREF, 21 GND, 22 PE3, 23 PC0, 24 PC1, 25 PC2, 26 PC3, 27 PC4, 28 PC5, 29 ~{{RESET}/PC6}, 30 PD0, 31 PD1, 32 PD2

## ATmega328PB-M
designator *  value ATmega328PB-M  Reference: U
20MHz, 32kB Flash, 2kB SRAM, 1kB EEPROM, QFN-32; ki_keywords: AVR 8bit Microcontroller MegaAVR; ki_fp_filters: QFN*1EP*5x5mm*P0.5mm*; Footprint: Package_DFN_QFN:QFN-32-1EP_5x5mm_P0.5mm_EP3.1x3.1mm; Datasheet: http://ww1.microchip.com/downloads/en/DeviceDoc/40001906C.pdf; Description_: 20MHz, 32kB Flash, 2kB SRAM, 1kB EEPROM, QFN-32
pins: 1 PD3, 2 PD4, 3 PE0, 4 VCC, 5 GND, 6 PE1, 7 XTAL1/PB6, 8 XTAL2/PB7, 9 PD5, 10 PD6, 11 PD7, 12 PB0, 13 PB1, 14 PB2, 15 PB3, 16 PB4, 17 PB5, 18 AVCC, 19 PE2, 20 AREF, 21 GND, 22 PE3, 23 PC0, 24 PC1, 25 PC2, 26 PC3, 27 PC4, 28 PC5, 29 ~{{RESET}/PC6}, 30 PD0, 31 PD1, 32 PD2, 33 GND

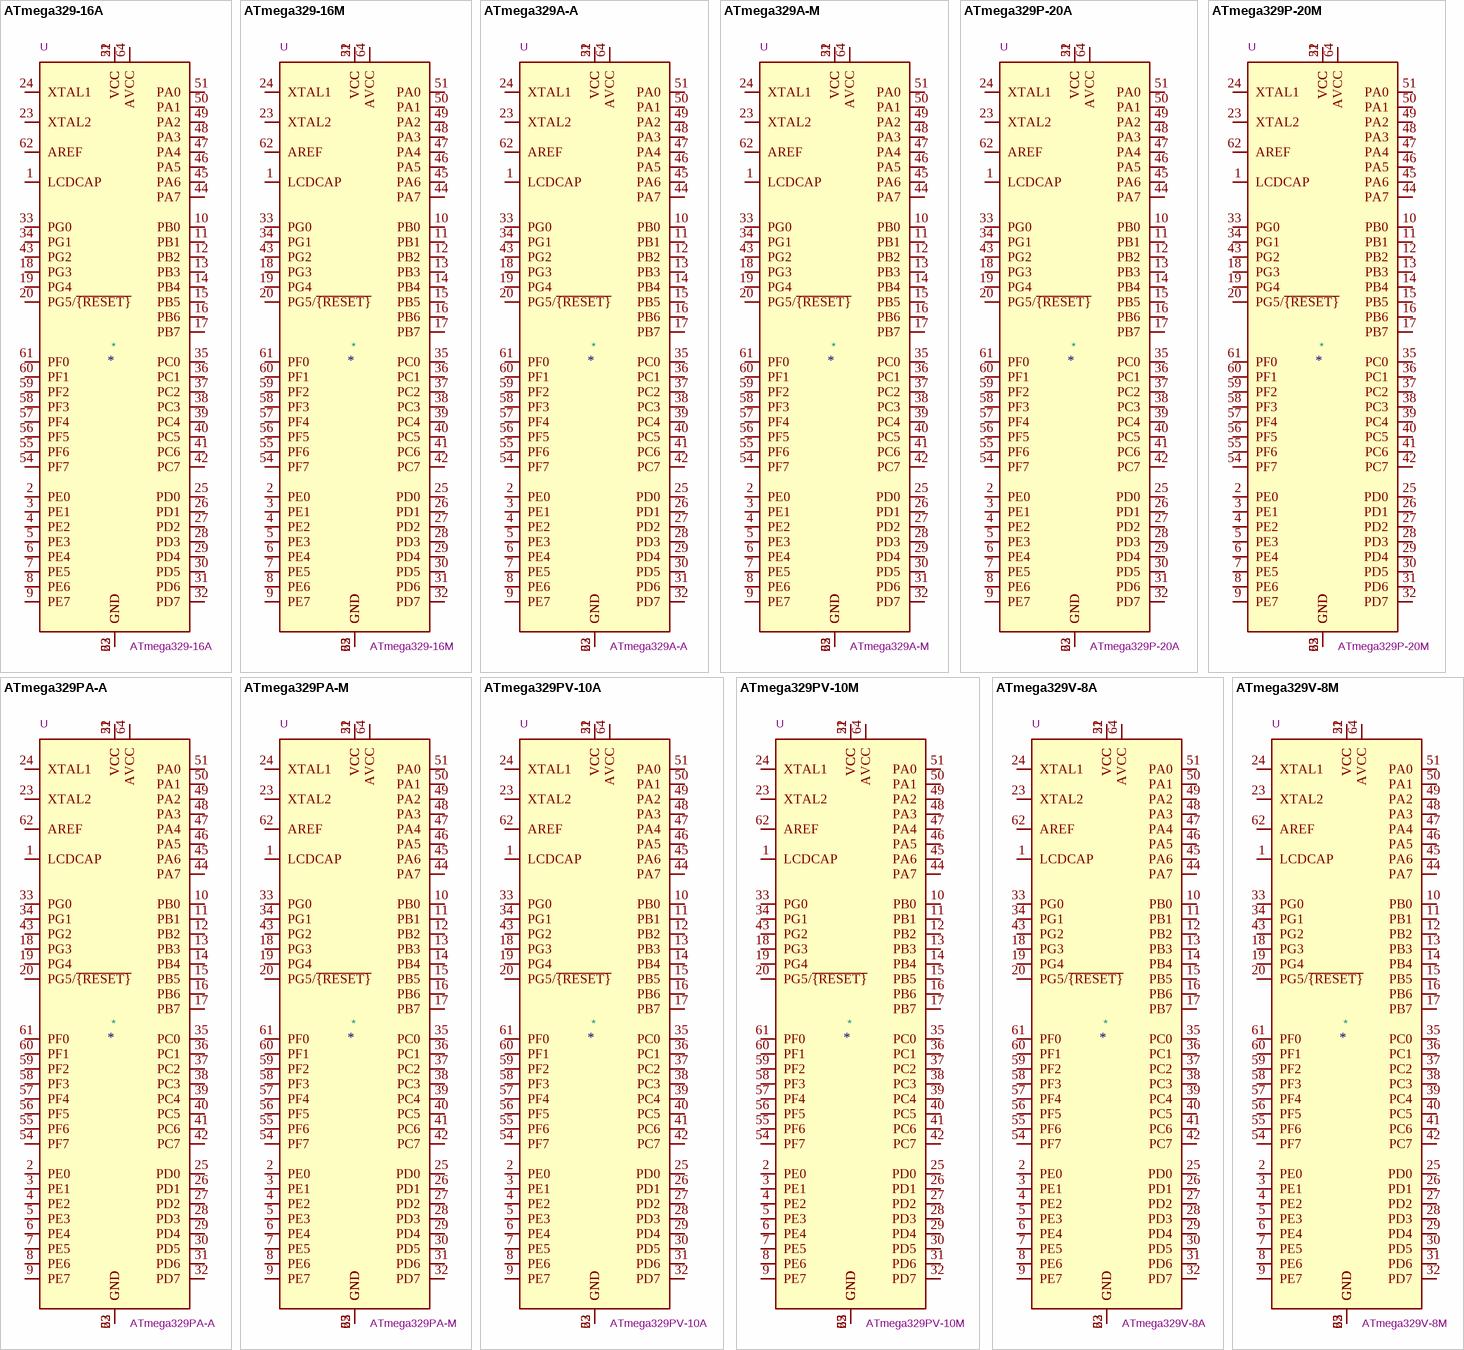
[diagram p17: symbols ATmega329-16A to ATmega329V-8M]

## ATmega329-16A
designator *  value ATmega329-16A  Reference: U
16MHz, 32kB Flash, 2kB SRAM, 1kB EEPROM, JTAG, TQFP-64; ki_keywords: AVR 8bit Microcontroller MegaAVR; ki_fp_filters: TQFP*14x14mm*P0.8mm*; Footprint: Package_QFP:TQFP-64_14x14mm_P0.8mm; Datasheet: http://ww1.microchip.com/downloads/en/DeviceDoc/doc2552.pdf; Description_: 16MHz, 32kB Flash, 2kB SRAM, 1kB EEPROM, JTAG, TQFP-64
pins: 1 LCDCAP, 2 PE0, 3 PE1, 4 PE2, 5 PE3, 6 PE4, 7 PE5, 8 PE6, 9 PE7, 10 PB0, 11 PB1, 12 PB2, 13 PB3, 14 PB4, 15 PB5, 16 PB6, 17 PB7, 18 PG3, 19 PG4, 20 PG5/~{{RESET}}, 21 VCC, 22 GND, 23 XTAL2, 24 XTAL1, 25 PD0, 26 PD1, 27 PD2, 28 PD3, 29 PD4, 30 PD5, 31 PD6, 32 PD7, 33 PG0, 34 PG1, 35 PC0, 36 PC1, 37 PC2, 38 PC3, 39 PC4, 40 PC5, 41 PC6, 42 PC7, 43 PG2, 44 PA7, 45 PA6, 46 PA5, 47 PA4, 48 PA3, 49 PA2, 50 PA1, 51 PA0, 52 VCC, 53 GND, 54 PF7, 55 PF6, 56 PF5, 57 PF4, 58 PF3, 59 PF2, 60 PF1, 61 PF0, 62 AREF, 63 GND, 64 AVCC

## ATmega329-16M
designator *  value ATmega329-16M  Reference: U
16MHz, 32kB Flash, 2kB SRAM, 1kB EEPROM, JTAG, QFN-64; ki_keywords: AVR 8bit Microcontroller MegaAVR; ki_fp_filters: QFN*1EP*9x9mm*P0.5mm*; Footprint: Package_DFN_QFN:QFN-64-1EP_9x9mm_P0.5mm_EP5.4x5.4mm; Datasheet: http://ww1.microchip.com/downloads/en/DeviceDoc/doc2552.pdf; Description_: 16MHz, 32kB Flash, 2kB SRAM, 1kB EEPROM, JTAG, QFN-64
pins: 1 LCDCAP, 2 PE0, 3 PE1, 4 PE2, 5 PE3, 6 PE4, 7 PE5, 8 PE6, 9 PE7, 10 PB0, 11 PB1, 12 PB2, 13 PB3, 14 PB4, 15 PB5, 16 PB6, 17 PB7, 18 PG3, 19 PG4, 20 PG5/~{{RESET}}, 21 VCC, 22 GND, 23 XTAL2, 24 XTAL1, 25 PD0, 26 PD1, 27 PD2, 28 PD3, 29 PD4, 30 PD5, 31 PD6, 32 PD7, 33 PG0, 34 PG1, 35 PC0, 36 PC1, 37 PC2, 38 PC3, 39 PC4, 40 PC5, 41 PC6, 42 PC7, 43 PG2, 44 PA7, 45 PA6, 46 PA5, 47 PA4, 48 PA3, 49 PA2, 50 PA1, 51 PA0, 52 VCC, 53 GND, 54 PF7, 55 PF6, 56 PF5, 57 PF4, 58 PF3, 59 PF2, 60 PF1, 61 PF0, 62 AREF, 63 GND, 64 AVCC, 65 GND

## ATmega329A-A
designator *  value ATmega329A-A  Reference: U
20MHz, 32kB Flash, 2kB SRAM, 1kB EEPROM, TQFP-64; ki_keywords: AVR 8bit Microcontroller MegaAVR LCD PicoPower; ki_fp_filters: TQFP*14x14mm*P0.8mm*; Footprint: Package_QFP:TQFP-64_14x14mm_P0.8mm; Datasheet: http://ww1.microchip.com/downloads/en/DeviceDoc/atmel-8284-8-bit-avr-microcontroller-atmega169a_pa_329a_pa_3290a_pa_649a_p_6490a_p_datasheet.pdf; Description_: 20MHz, 32kB Flash, 2kB SRAM, 1kB EEPROM, TQFP-64
pins: 1 LCDCAP, 2 PE0, 3 PE1, 4 PE2, 5 PE3, 6 PE4, 7 PE5, 8 PE6, 9 PE7, 10 PB0, 11 PB1, 12 PB2, 13 PB3, 14 PB4, 15 PB5, 16 PB6, 17 PB7, 18 PG3, 19 PG4, 20 PG5/~{{RESET}}, 21 VCC, 22 GND, 23 XTAL2, 24 XTAL1, 25 PD0, 26 PD1, 27 PD2, 28 PD3, 29 PD4, 30 PD5, 31 PD6, 32 PD7, 33 PG0, 34 PG1, 35 PC0, 36 PC1, 37 PC2, 38 PC3, 39 PC4, 40 PC5, 41 PC6, 42 PC7, 43 PG2, 44 PA7, 45 PA6, 46 PA5, 47 PA4, 48 PA3, 49 PA2, 50 PA1, 51 PA0, 52 VCC, 53 GND, 54 PF7, 55 PF6, 56 PF5, 57 PF4, 58 PF3, 59 PF2, 60 PF1, 61 PF0, 62 AREF, 63 GND, 64 AVCC

## ATmega329A-M
designator *  value ATmega329A-M  Reference: U
20MHz, 32kB Flash, 2kB SRAM, 1kB EEPROM, QFN-64; ki_keywords: AVR 8bit Microcontroller MegaAVR LCD PicoPower; ki_fp_filters: QFN*1EP*9x9mm*P0.5mm*; Footprint: Package_DFN_QFN:QFN-64-1EP_9x9mm_P0.5mm_EP5.4x5.4mm; Datasheet: http://ww1.microchip.com/downloads/en/DeviceDoc/atmel-8284-8-bit-avr-microcontroller-atmega169a_pa_329a_pa_3290a_pa_649a_p_6490a_p_datasheet.pdf; Description_: 20MHz, 32kB Flash, 2kB SRAM, 1kB EEPROM, QFN-64
pins: 1 LCDCAP, 2 PE0, 3 PE1, 4 PE2, 5 PE3, 6 PE4, 7 PE5, 8 PE6, 9 PE7, 10 PB0, 11 PB1, 12 PB2, 13 PB3, 14 PB4, 15 PB5, 16 PB6, 17 PB7, 18 PG3, 19 PG4, 20 PG5/~{{RESET}}, 21 VCC, 22 GND, 23 XTAL2, 24 XTAL1, 25 PD0, 26 PD1, 27 PD2, 28 PD3, 29 PD4, 30 PD5, 31 PD6, 32 PD7, 33 PG0, 34 PG1, 35 PC0, 36 PC1, 37 PC2, 38 PC3, 39 PC4, 40 PC5, 41 PC6, 42 PC7, 43 PG2, 44 PA7, 45 PA6, 46 PA5, 47 PA4, 48 PA3, 49 PA2, 50 PA1, 51 PA0, 52 VCC, 53 GND, 54 PF7, 55 PF6, 56 PF5, 57 PF4, 58 PF3, 59 PF2, 60 PF1, 61 PF0, 62 AREF, 63 GND, 64 AVCC, 65 GND

## ATmega329P-20A
designator *  value ATmega329P-20A  Reference: U
20MHz, 32kB Flash, 2kB SRAM, 1kB EEPROM, JTAG, TQFP-64; ki_keywords: AVR 8bit Microcontroller MegaAVR; ki_fp_filters: TQFP*14x14mm*P0.8mm*; Footprint: Package_QFP:TQFP-64_14x14mm_P0.8mm; Datasheet: http://ww1.microchip.com/downloads/en/DeviceDoc/Atmel-8021-AVR-ATmega329P-3290P_Datasheet.pdf; Description_: 20MHz, 32kB Flash, 2kB SRAM, 1kB EEPROM, JTAG, TQFP-64
pins: 1 LCDCAP, 2 PE0, 3 PE1, 4 PE2, 5 PE3, 6 PE4, 7 PE5, 8 PE6, 9 PE7, 10 PB0, 11 PB1, 12 PB2, 13 PB3, 14 PB4, 15 PB5, 16 PB6, 17 PB7, 18 PG3, 19 PG4, 20 PG5/~{{RESET}}, 21 VCC, 22 GND, 23 XTAL2, 24 XTAL1, 25 PD0, 26 PD1, 27 PD2, 28 PD3, 29 PD4, 30 PD5, 31 PD6, 32 PD7, 33 PG0, 34 PG1, 35 PC0, 36 PC1, 37 PC2, 38 PC3, 39 PC4, 40 PC5, 41 PC6, 42 PC7, 43 PG2, 44 PA7, 45 PA6, 46 PA5, 47 PA4, 48 PA3, 49 PA2, 50 PA1, 51 PA0, 52 VCC, 53 GND, 54 PF7, 55 PF6, 56 PF5, 57 PF4, 58 PF3, 59 PF2, 60 PF1, 61 PF0, 62 AREF, 63 GND, 64 AVCC

## ATmega329P-20M
designator *  value ATmega329P-20M  Reference: U
20MHz, 32kB Flash, 2kB SRAM, 1kB EEPROM, JTAG, QFN-64; ki_keywords: AVR 8bit Microcontroller MegaAVR; ki_fp_filters: QFN*1EP*9x9mm*P0.5mm*; Footprint: Package_DFN_QFN:QFN-64-1EP_9x9mm_P0.5mm_EP5.4x5.4mm; Datasheet: http://ww1.microchip.com/downloads/en/DeviceDoc/Atmel-8021-AVR-ATmega329P-3290P_Datasheet.pdf; Description_: 20MHz, 32kB Flash, 2kB SRAM, 1kB EEPROM, JTAG, QFN-64
pins: 1 LCDCAP, 2 PE0, 3 PE1, 4 PE2, 5 PE3, 6 PE4, 7 PE5, 8 PE6, 9 PE7, 10 PB0, 11 PB1, 12 PB2, 13 PB3, 14 PB4, 15 PB5, 16 PB6, 17 PB7, 18 PG3, 19 PG4, 20 PG5/~{{RESET}}, 21 VCC, 22 GND, 23 XTAL2, 24 XTAL1, 25 PD0, 26 PD1, 27 PD2, 28 PD3, 29 PD4, 30 PD5, 31 PD6, 32 PD7, 33 PG0, 34 PG1, 35 PC0, 36 PC1, 37 PC2, 38 PC3, 39 PC4, 40 PC5, 41 PC6, 42 PC7, 43 PG2, 44 PA7, 45 PA6, 46 PA5, 47 PA4, 48 PA3, 49 PA2, 50 PA1, 51 PA0, 52 VCC, 53 GND, 54 PF7, 55 PF6, 56 PF5, 57 PF4, 58 PF3, 59 PF2, 60 PF1, 61 PF0, 62 AREF, 63 GND, 64 AVCC, 65 GND

## ATmega329PA-A
designator *  value ATmega329PA-A  Reference: U
20MHz, 32kB Flash, 2kB SRAM, 1kB EEPROM, TQFP-64; ki_keywords: AVR 8bit Microcontroller MegaAVR LCD PicoPower; ki_fp_filters: TQFP*14x14mm*P0.8mm*; Footprint: Package_QFP:TQFP-64_14x14mm_P0.8mm; Datasheet: http://ww1.microchip.com/downloads/en/DeviceDoc/atmel-8284-8-bit-avr-microcontroller-atmega169a_pa_329a_pa_3290a_pa_649a_p_6490a_p_datasheet.pdf; Description_: 20MHz, 32kB Flash, 2kB SRAM, 1kB EEPROM, TQFP-64
pins: 1 LCDCAP, 2 PE0, 3 PE1, 4 PE2, 5 PE3, 6 PE4, 7 PE5, 8 PE6, 9 PE7, 10 PB0, 11 PB1, 12 PB2, 13 PB3, 14 PB4, 15 PB5, 16 PB6, 17 PB7, 18 PG3, 19 PG4, 20 PG5/~{{RESET}}, 21 VCC, 22 GND, 23 XTAL2, 24 XTAL1, 25 PD0, 26 PD1, 27 PD2, 28 PD3, 29 PD4, 30 PD5, 31 PD6, 32 PD7, 33 PG0, 34 PG1, 35 PC0, 36 PC1, 37 PC2, 38 PC3, 39 PC4, 40 PC5, 41 PC6, 42 PC7, 43 PG2, 44 PA7, 45 PA6, 46 PA5, 47 PA4, 48 PA3, 49 PA2, 50 PA1, 51 PA0, 52 VCC, 53 GND, 54 PF7, 55 PF6, 56 PF5, 57 PF4, 58 PF3, 59 PF2, 60 PF1, 61 PF0, 62 AREF, 63 GND, 64 AVCC

## ATmega329PA-M
designator *  value ATmega329PA-M  Reference: U
20MHz, 32kB Flash, 2kB SRAM, 1kB EEPROM, QFN-64; ki_keywords: AVR 8bit Microcontroller MegaAVR LCD PicoPower; ki_fp_filters: QFN*1EP*9x9mm*P0.5mm*; Footprint: Package_DFN_QFN:QFN-64-1EP_9x9mm_P0.5mm_EP5.4x5.4mm; Datasheet: http://ww1.microchip.com/downloads/en/DeviceDoc/atmel-8284-8-bit-avr-microcontroller-atmega169a_pa_329a_pa_3290a_pa_649a_p_6490a_p_datasheet.pdf; Description_: 20MHz, 32kB Flash, 2kB SRAM, 1kB EEPROM, QFN-64
pins: 1 LCDCAP, 2 PE0, 3 PE1, 4 PE2, 5 PE3, 6 PE4, 7 PE5, 8 PE6, 9 PE7, 10 PB0, 11 PB1, 12 PB2, 13 PB3, 14 PB4, 15 PB5, 16 PB6, 17 PB7, 18 PG3, 19 PG4, 20 PG5/~{{RESET}}, 21 VCC, 22 GND, 23 XTAL2, 24 XTAL1, 25 PD0, 26 PD1, 27 PD2, 28 PD3, 29 PD4, 30 PD5, 31 PD6, 32 PD7, 33 PG0, 34 PG1, 35 PC0, 36 PC1, 37 PC2, 38 PC3, 39 PC4, 40 PC5, 41 PC6, 42 PC7, 43 PG2, 44 PA7, 45 PA6, 46 PA5, 47 PA4, 48 PA3, 49 PA2, 50 PA1, 51 PA0, 52 VCC, 53 GND, 54 PF7, 55 PF6, 56 PF5, 57 PF4, 58 PF3, 59 PF2, 60 PF1, 61 PF0, 62 AREF, 63 GND, 64 AVCC, 65 GND

## ATmega329PV-10A
designator *  value ATmega329PV-10A  Reference: U
10MHz, 32kB Flash, 2kB SRAM, 1kB EEPROM, JTAG, TQFP-64; ki_keywords: AVR 8bit Microcontroller MegaAVR; ki_fp_filters: TQFP*14x14mm*P0.8mm*; Footprint: Package_QFP:TQFP-64_14x14mm_P0.8mm; Datasheet: http://ww1.microchip.com/downloads/en/DeviceDoc/Atmel-8021-AVR-ATmega329P-3290P_Datasheet.pdf; Description_: 10MHz, 32kB Flash, 2kB SRAM, 1kB EEPROM, JTAG, TQFP-64
pins: 1 LCDCAP, 2 PE0, 3 PE1, 4 PE2, 5 PE3, 6 PE4, 7 PE5, 8 PE6, 9 PE7, 10 PB0, 11 PB1, 12 PB2, 13 PB3, 14 PB4, 15 PB5, 16 PB6, 17 PB7, 18 PG3, 19 PG4, 20 PG5/~{{RESET}}, 21 VCC, 22 GND, 23 XTAL2, 24 XTAL1, 25 PD0, 26 PD1, 27 PD2, 28 PD3, 29 PD4, 30 PD5, 31 PD6, 32 PD7, 33 PG0, 34 PG1, 35 PC0, 36 PC1, 37 PC2, 38 PC3, 39 PC4, 40 PC5, 41 PC6, 42 PC7, 43 PG2, 44 PA7, 45 PA6, 46 PA5, 47 PA4, 48 PA3, 49 PA2, 50 PA1, 51 PA0, 52 VCC, 53 GND, 54 PF7, 55 PF6, 56 PF5, 57 PF4, 58 PF3, 59 PF2, 60 PF1, 61 PF0, 62 AREF, 63 GND, 64 AVCC

## ATmega329PV-10M
designator *  value ATmega329PV-10M  Reference: U
10MHz, 32kB Flash, 2kB SRAM, 1kB EEPROM, JTAG, QFN-64; ki_keywords: AVR 8bit Microcontroller MegaAVR; ki_fp_filters: QFN*1EP*9x9mm*P0.5mm*; Footprint: Package_DFN_QFN:QFN-64-1EP_9x9mm_P0.5mm_EP5.4x5.4mm; Datasheet: http://ww1.microchip.com/downloads/en/DeviceDoc/Atmel-8021-AVR-ATmega329P-3290P_Datasheet.pdf; Description_: 10MHz, 32kB Flash, 2kB SRAM, 1kB EEPROM, JTAG, QFN-64
pins: 1 LCDCAP, 2 PE0, 3 PE1, 4 PE2, 5 PE3, 6 PE4, 7 PE5, 8 PE6, 9 PE7, 10 PB0, 11 PB1, 12 PB2, 13 PB3, 14 PB4, 15 PB5, 16 PB6, 17 PB7, 18 PG3, 19 PG4, 20 PG5/~{{RESET}}, 21 VCC, 22 GND, 23 XTAL2, 24 XTAL1, 25 PD0, 26 PD1, 27 PD2, 28 PD3, 29 PD4, 30 PD5, 31 PD6, 32 PD7, 33 PG0, 34 PG1, 35 PC0, 36 PC1, 37 PC2, 38 PC3, 39 PC4, 40 PC5, 41 PC6, 42 PC7, 43 PG2, 44 PA7, 45 PA6, 46 PA5, 47 PA4, 48 PA3, 49 PA2, 50 PA1, 51 PA0, 52 VCC, 53 GND, 54 PF7, 55 PF6, 56 PF5, 57 PF4, 58 PF3, 59 PF2, 60 PF1, 61 PF0, 62 AREF, 63 GND, 64 AVCC, 65 GND

## ATmega329V-8A
designator *  value ATmega329V-8A  Reference: U
8MHz, 32kB Flash, 2kB SRAM, 1kB EEPROM, JTAG, TQFP-64; ki_keywords: AVR 8bit Microcontroller MegaAVR; ki_fp_filters: TQFP*14x14mm*P0.8mm*; Footprint: Package_QFP:TQFP-64_14x14mm_P0.8mm; Datasheet: http://ww1.microchip.com/downloads/en/DeviceDoc/doc2552.pdf; Description_: 8MHz, 32kB Flash, 2kB SRAM, 1kB EEPROM, JTAG, TQFP-64
pins: 1 LCDCAP, 2 PE0, 3 PE1, 4 PE2, 5 PE3, 6 PE4, 7 PE5, 8 PE6, 9 PE7, 10 PB0, 11 PB1, 12 PB2, 13 PB3, 14 PB4, 15 PB5, 16 PB6, 17 PB7, 18 PG3, 19 PG4, 20 PG5/~{{RESET}}, 21 VCC, 22 GND, 23 XTAL2, 24 XTAL1, 25 PD0, 26 PD1, 27 PD2, 28 PD3, 29 PD4, 30 PD5, 31 PD6, 32 PD7, 33 PG0, 34 PG1, 35 PC0, 36 PC1, 37 PC2, 38 PC3, 39 PC4, 40 PC5, 41 PC6, 42 PC7, 43 PG2, 44 PA7, 45 PA6, 46 PA5, 47 PA4, 48 PA3, 49 PA2, 50 PA1, 51 PA0, 52 VCC, 53 GND, 54 PF7, 55 PF6, 56 PF5, 57 PF4, 58 PF3, 59 PF2, 60 PF1, 61 PF0, 62 AREF, 63 GND, 64 AVCC

## ATmega329V-8M
designator *  value ATmega329V-8M  Reference: U
8MHz, 32kB Flash, 2kB SRAM, 1kB EEPROM, JTAG, QFN-64; ki_keywords: AVR 8bit Microcontroller MegaAVR; ki_fp_filters: QFN*1EP*9x9mm*P0.5mm*; Footprint: Package_DFN_QFN:QFN-64-1EP_9x9mm_P0.5mm_EP5.4x5.4mm; Datasheet: http://ww1.microchip.com/downloads/en/DeviceDoc/doc2552.pdf; Description_: 8MHz, 32kB Flash, 2kB SRAM, 1kB EEPROM, JTAG, QFN-64
pins: 1 LCDCAP, 2 PE0, 3 PE1, 4 PE2, 5 PE3, 6 PE4, 7 PE5, 8 PE6, 9 PE7, 10 PB0, 11 PB1, 12 PB2, 13 PB3, 14 PB4, 15 PB5, 16 PB6, 17 PB7, 18 PG3, 19 PG4, 20 PG5/~{{RESET}}, 21 VCC, 22 GND, 23 XTAL2, 24 XTAL1, 25 PD0, 26 PD1, 27 PD2, 28 PD3, 29 PD4, 30 PD5, 31 PD6, 32 PD7, 33 PG0, 34 PG1, 35 PC0, 36 PC1, 37 PC2, 38 PC3, 39 PC4, 40 PC5, 41 PC6, 42 PC7, 43 PG2, 44 PA7, 45 PA6, 46 PA5, 47 PA4, 48 PA3, 49 PA2, 50 PA1, 51 PA0, 52 VCC, 53 GND, 54 PF7, 55 PF6, 56 PF5, 57 PF4, 58 PF3, 59 PF2, 60 PF1, 61 PF0, 62 AREF, 63 GND, 64 AVCC, 65 GND

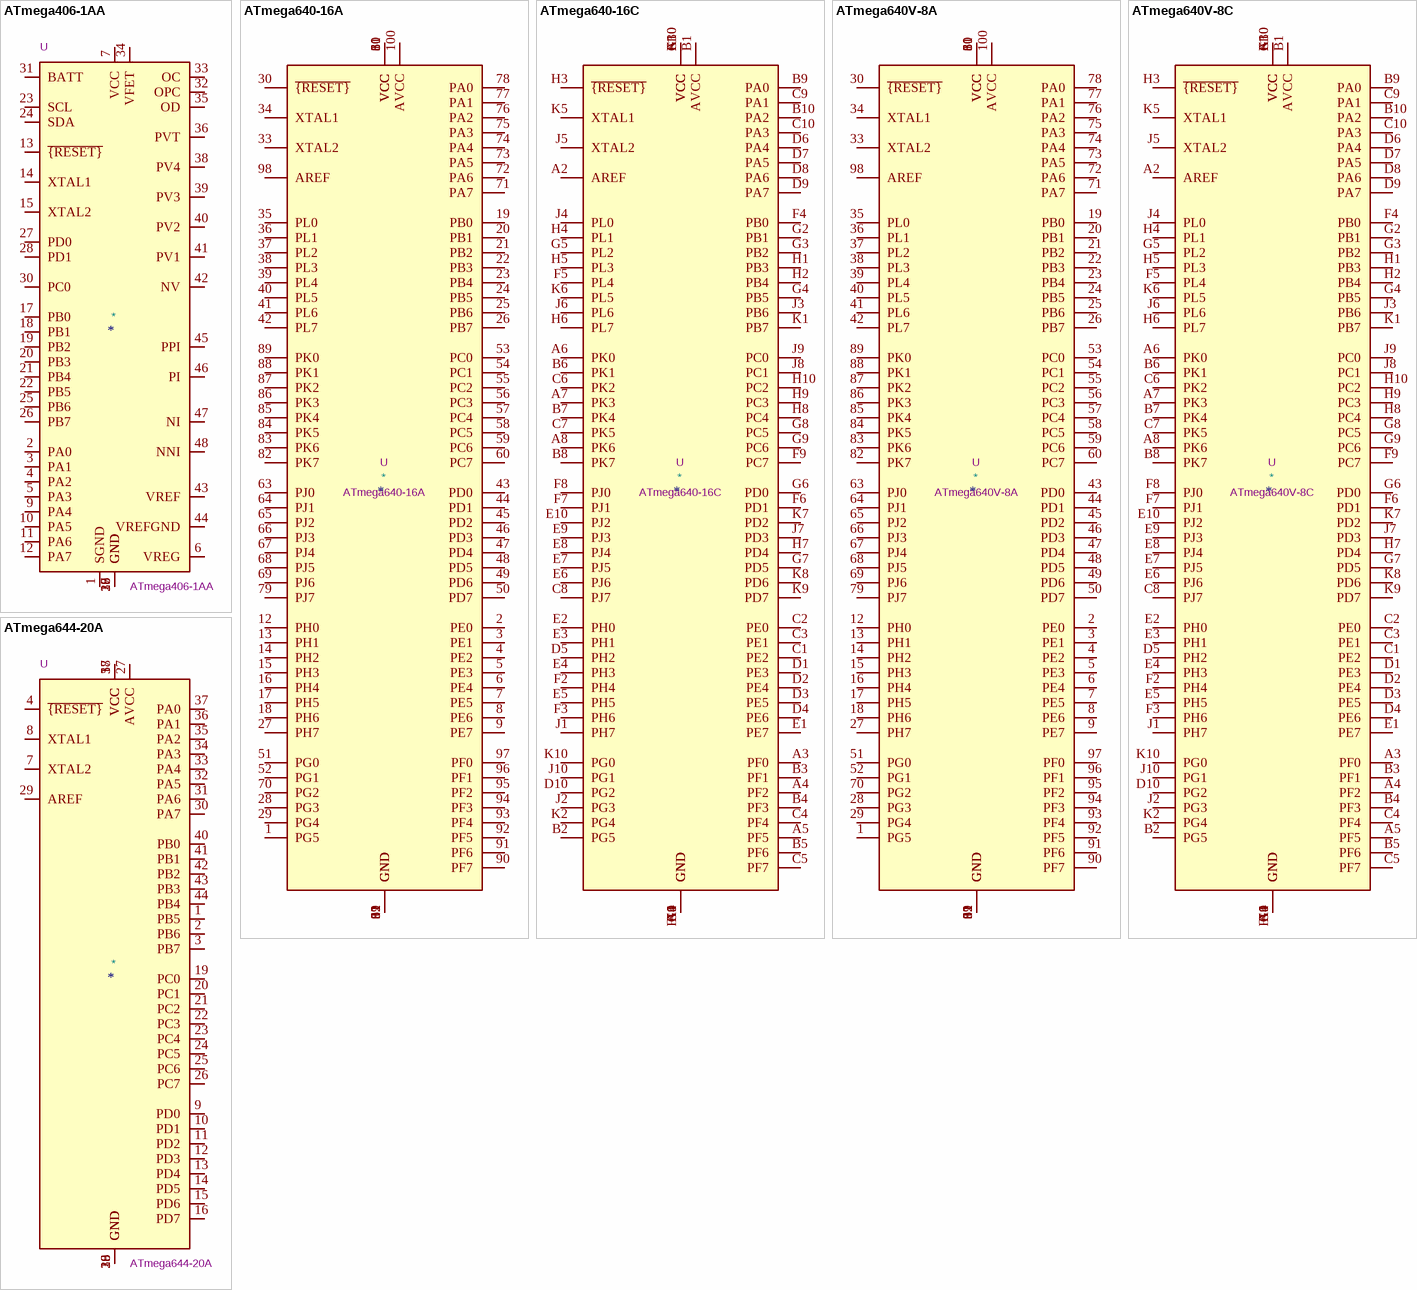
[diagram p18: symbols ATmega406-1AA to ATmega644-20A]

## ATmega406-1AA
designator *  value ATmega406-1AA  Reference: U
1MHz, 40kB Flash, 2kB SRAM, 512B EEPROM, JTAG, LQFP-48; ki_keywords: AVR 8bit Microcontroller MegaAVR battery management; ki_fp_filters: LQFP*7x7mm*P0.5mm*; Footprint: Package_QFP:LQFP-48_7x7mm_P0.5mm; Datasheet: http://ww1.microchip.com/downloads/en/DeviceDoc/Atmel-2548-8-bit-AVR-Microcontroller-Battery-Management-ATmega406_Datasheet.pdf; Description_: 1MHz, 40kB Flash, 2kB SRAM, 512B EEPROM, JTAG, LQFP-48
pins: 1 SGND, 2 PA0, 3 PA1, 4 PA2, 5 PA3, 6 VREG, 7 VCC, 8 GND, 9 PA4, 10 PA5, 11 PA6, 12 PA7, 13 ~{{RESET}}, 14 XTAL1, 15 XTAL2, 16 GND, 17 PB0, 18 PB1, 19 PB2, 20 PB3, 21 PB4, 22 PB5, 23 SCL, 24 SDA, 25 PB6, 26 PB7, 27 PD0, 28 PD1, 29 GND, 30 PC0, 31 BATT, 32 OPC, 33 OC, 34 VFET, 35 OD, 36 PVT, 37 GND, 38 PV4, 39 PV3, 40 PV2, 41 PV1, 42 NV, 43 VREF, 44 VREFGND, 45 PPI, 46 PI, 47 NI, 48 NNI

## ATmega640-16A
designator *  value ATmega640-16A  Reference: U
16MHz, 64kB Flash, 8kB SRAM, 4kB EEPROM, JTAG, TQFP-100; ki_keywords: AVR 8bit Microcontroller MegaAVR; ki_fp_filters: TQFP*14x14mm*P0.5mm*; Footprint: Package_QFP:TQFP-100_14x14mm_P0.5mm; Datasheet: http://ww1.microchip.com/downloads/en/DeviceDoc/Atmel-2549-8-bit-AVR-Microcontroller-ATmega640-1280-1281-2560-2561_datasheet.pdf; Description_: 16MHz, 64kB Flash, 8kB SRAM, 4kB EEPROM, JTAG, TQFP-100
pins: 1 PG5, 2 PE0, 3 PE1, 4 PE2, 5 PE3, 6 PE4, 7 PE5, 8 PE6, 9 PE7, 10 VCC, 11 GND, 12 PH0, 13 PH1, 14 PH2, 15 PH3, 16 PH4, 17 PH5, 18 PH6, 19 PB0, 20 PB1, 21 PB2, 22 PB3, 23 PB4, 24 PB5, 25 PB6, 26 PB7, 27 PH7, 28 PG3, 29 PG4, 30 ~{{RESET}}, 31 VCC, 32 GND, 33 XTAL2, 34 XTAL1, 35 PL0, 36 PL1, 37 PL2, 38 PL3, 39 PL4, 40 PL5, 41 PL6, 42 PL7, 43 PD0, 44 PD1, 45 PD2, 46 PD3, 47 PD4, 48 PD5, 49 PD6, 50 PD7, 51 PG0, 52 PG1, 53 PC0, 54 PC1, 55 PC2, 56 PC3, 57 PC4, 58 PC5, 59 PC6, 60 PC7, 61 VCC, 62 GND, 63 PJ0, 64 PJ1, 65 PJ2, 66 PJ3, 67 PJ4, 68 PJ5, 69 PJ6, 70 PG2, 71 PA7, 72 PA6, 73 PA5, 74 PA4, 75 PA3, 76 PA2, 77 PA1, 78 PA0, 79 PJ7, 80 VCC, 81 GND, 82 PK7, 83 PK6, 84 PK5, 85 PK4, 86 PK3, 87 PK2, 88 PK1, 89 PK0, 90 PF7, 91 PF6, 92 PF5, 93 PF4, 94 PF3, 95 PF2, 96 PF1, 97 PF0, 98 AREF, 99 GND, 100 AVCC

## ATmega640-16C
designator *  value ATmega640-16C  Reference: U
16MHz, 64kB Flash, 8kB SRAM, 4kB EEPROM, JTAG, TFBGA-100; ki_keywords: AVR 8bit Microcontroller MegaAVR; ki_fp_filters: TFBGA*9.0x9.0mm*Layout10x10*P0.8mm*; Footprint: Package_BGA:TFBGA-100_9.0x9.0mm_Layout10x10_P0.8mm; Datasheet: http://ww1.microchip.com/downloads/en/DeviceDoc/Atmel-2549-8-bit-AVR-Microcontroller-ATmega640-1280-1281-2560-2561_datasheet.pdf; Description_: 16MHz, 64kB Flash, 8kB SRAM, 4kB EEPROM, JTAG, TFBGA-100
pins: A1 GND, A2 AREF, A3 PF0, A4 PF2, A5 PF5, A6 PK0, A7 PK3, A8 PK6, A9 GND, A10 VCC, B1 AVCC, B2 PG5, B3 PF1, B4 PF3, B5 PF6, B6 PK1, B7 PK4, B8 PK7, B9 PA0, B10 PA2, C1 PE2, C2 PE0, C3 PE1, C4 PF4, C5 PF7, C6 PK2, C7 PK5, C8 PJ7, C9 PA1, C10 PA3, D1 PE3, D2 PE4, D3 PE5, D4 PE6, D5 PH2, D6 PA4, D7 PA5, D8 PA6, D9 PA7, D10 PG2, E1 PE7, E2 PH0, E3 PH1, E4 PH3, E5 PH5, E6 PJ6, E7 PJ5, E8 PJ4, E9 PJ3, E10 PJ2, F1 VCC, F2 PH4, F3 PH6, F4 PB0, F5 PL4, F6 PD1, F7 PJ1, F8 PJ0, F9 PC7, F10 GND, G1 GND, G2 PB1, G3 PB2, G4 PB5, G5 PL2, G6 PD0, G7 PD5, G8 PC5, G9 PC6, G10 VCC, H1 PB3, H2 PB4, H3 ~{{RESET}}, H4 PL1, H5 PL3, H6 PL7, H7 PD4, H8 PC4, H9 PC3, H10 PC2, J1 PH7, J2 PG3, J3 PB6, J4 PL0, J5 XTAL2, J6 PL6, J7 PD3, J8 PC1, J9 PC0, J10 PG1, K1 PB7, K2 PG4, K3 VCC, K4 GND, K5 XTAL1, K6 PL5, K7 PD2, K8 PD6, K9 PD7, K10 PG0

## ATmega640V-8A
designator *  value ATmega640V-8A  Reference: U
8MHz, 64kB Flash, 8kB SRAM, 4kB EEPROM, JTAG, TQFP-100; ki_keywords: AVR 8bit Microcontroller MegaAVR; ki_fp_filters: TQFP*14x14mm*P0.5mm*; Footprint: Package_QFP:TQFP-100_14x14mm_P0.5mm; Datasheet: http://ww1.microchip.com/downloads/en/DeviceDoc/Atmel-2549-8-bit-AVR-Microcontroller-ATmega640-1280-1281-2560-2561_datasheet.pdf; Description_: 8MHz, 64kB Flash, 8kB SRAM, 4kB EEPROM, JTAG, TQFP-100
pins: 1 PG5, 2 PE0, 3 PE1, 4 PE2, 5 PE3, 6 PE4, 7 PE5, 8 PE6, 9 PE7, 10 VCC, 11 GND, 12 PH0, 13 PH1, 14 PH2, 15 PH3, 16 PH4, 17 PH5, 18 PH6, 19 PB0, 20 PB1, 21 PB2, 22 PB3, 23 PB4, 24 PB5, 25 PB6, 26 PB7, 27 PH7, 28 PG3, 29 PG4, 30 ~{{RESET}}, 31 VCC, 32 GND, 33 XTAL2, 34 XTAL1, 35 PL0, 36 PL1, 37 PL2, 38 PL3, 39 PL4, 40 PL5, 41 PL6, 42 PL7, 43 PD0, 44 PD1, 45 PD2, 46 PD3, 47 PD4, 48 PD5, 49 PD6, 50 PD7, 51 PG0, 52 PG1, 53 PC0, 54 PC1, 55 PC2, 56 PC3, 57 PC4, 58 PC5, 59 PC6, 60 PC7, 61 VCC, 62 GND, 63 PJ0, 64 PJ1, 65 PJ2, 66 PJ3, 67 PJ4, 68 PJ5, 69 PJ6, 70 PG2, 71 PA7, 72 PA6, 73 PA5, 74 PA4, 75 PA3, 76 PA2, 77 PA1, 78 PA0, 79 PJ7, 80 VCC, 81 GND, 82 PK7, 83 PK6, 84 PK5, 85 PK4, 86 PK3, 87 PK2, 88 PK1, 89 PK0, 90 PF7, 91 PF6, 92 PF5, 93 PF4, 94 PF3, 95 PF2, 96 PF1, 97 PF0, 98 AREF, 99 GND, 100 AVCC

## ATmega640V-8C
designator *  value ATmega640V-8C  Reference: U
8MHz, 64kB Flash, 8kB SRAM, 4kB EEPROM, JTAG, TFBGA-100; ki_keywords: AVR 8bit Microcontroller MegaAVR; ki_fp_filters: TFBGA*9.0x9.0mm*Layout10x10*P0.8mm*; Footprint: Package_BGA:TFBGA-100_9.0x9.0mm_Layout10x10_P0.8mm; Datasheet: http://ww1.microchip.com/downloads/en/DeviceDoc/Atmel-2549-8-bit-AVR-Microcontroller-ATmega640-1280-1281-2560-2561_datasheet.pdf; Description_: 8MHz, 64kB Flash, 8kB SRAM, 4kB EEPROM, JTAG, TFBGA-100
pins: A1 GND, A2 AREF, A3 PF0, A4 PF2, A5 PF5, A6 PK0, A7 PK3, A8 PK6, A9 GND, A10 VCC, B1 AVCC, B2 PG5, B3 PF1, B4 PF3, B5 PF6, B6 PK1, B7 PK4, B8 PK7, B9 PA0, B10 PA2, C1 PE2, C2 PE0, C3 PE1, C4 PF4, C5 PF7, C6 PK2, C7 PK5, C8 PJ7, C9 PA1, C10 PA3, D1 PE3, D2 PE4, D3 PE5, D4 PE6, D5 PH2, D6 PA4, D7 PA5, D8 PA6, D9 PA7, D10 PG2, E1 PE7, E2 PH0, E3 PH1, E4 PH3, E5 PH5, E6 PJ6, E7 PJ5, E8 PJ4, E9 PJ3, E10 PJ2, F1 VCC, F2 PH4, F3 PH6, F4 PB0, F5 PL4, F6 PD1, F7 PJ1, F8 PJ0, F9 PC7, F10 GND, G1 GND, G2 PB1, G3 PB2, G4 PB5, G5 PL2, G6 PD0, G7 PD5, G8 PC5, G9 PC6, G10 VCC, H1 PB3, H2 PB4, H3 ~{{RESET}}, H4 PL1, H5 PL3, H6 PL7, H7 PD4, H8 PC4, H9 PC3, H10 PC2, J1 PH7, J2 PG3, J3 PB6, J4 PL0, J5 XTAL2, J6 PL6, J7 PD3, J8 PC1, J9 PC0, J10 PG1, K1 PB7, K2 PG4, K3 VCC, K4 GND, K5 XTAL1, K6 PL5, K7 PD2, K8 PD6, K9 PD7, K10 PG0

## ATmega644-20A
designator *  value ATmega644-20A  Reference: U
20MHz, 64kB Flash, 4kB SRAM, 2kB EEPROM, JTAG, TQFP-44; ki_keywords: AVR 8bit Microcontroller MegaAVR; ki_fp_filters: TQFP*10x10mm*P0.8mm*; Footprint: Package_QFP:TQFP-44_10x10mm_P0.8mm; Datasheet: http://ww1.microchip.com/downloads/en/DeviceDoc/doc2593.pdf; Description_: 20MHz, 64kB Flash, 4kB SRAM, 2kB EEPROM, JTAG, TQFP-44
pins: 1 PB5, 2 PB6, 3 PB7, 4 ~{{RESET}}, 5 VCC, 6 GND, 7 XTAL2, 8 XTAL1, 9 PD0, 10 PD1, 11 PD2, 12 PD3, 13 PD4, 14 PD5, 15 PD6, 16 PD7, 17 VCC, 18 GND, 19 PC0, 20 PC1, 21 PC2, 22 PC3, 23 PC4, 24 PC5, 25 PC6, 26 PC7, 27 AVCC, 28 GND, 29 AREF, 30 PA7, 31 PA6, 32 PA5, 33 PA4, 34 PA3, 35 PA2, 36 PA1, 37 PA0, 38 VCC, 39 GND, 40 PB0, 41 PB1, 42 PB2, 43 PB3, 44 PB4

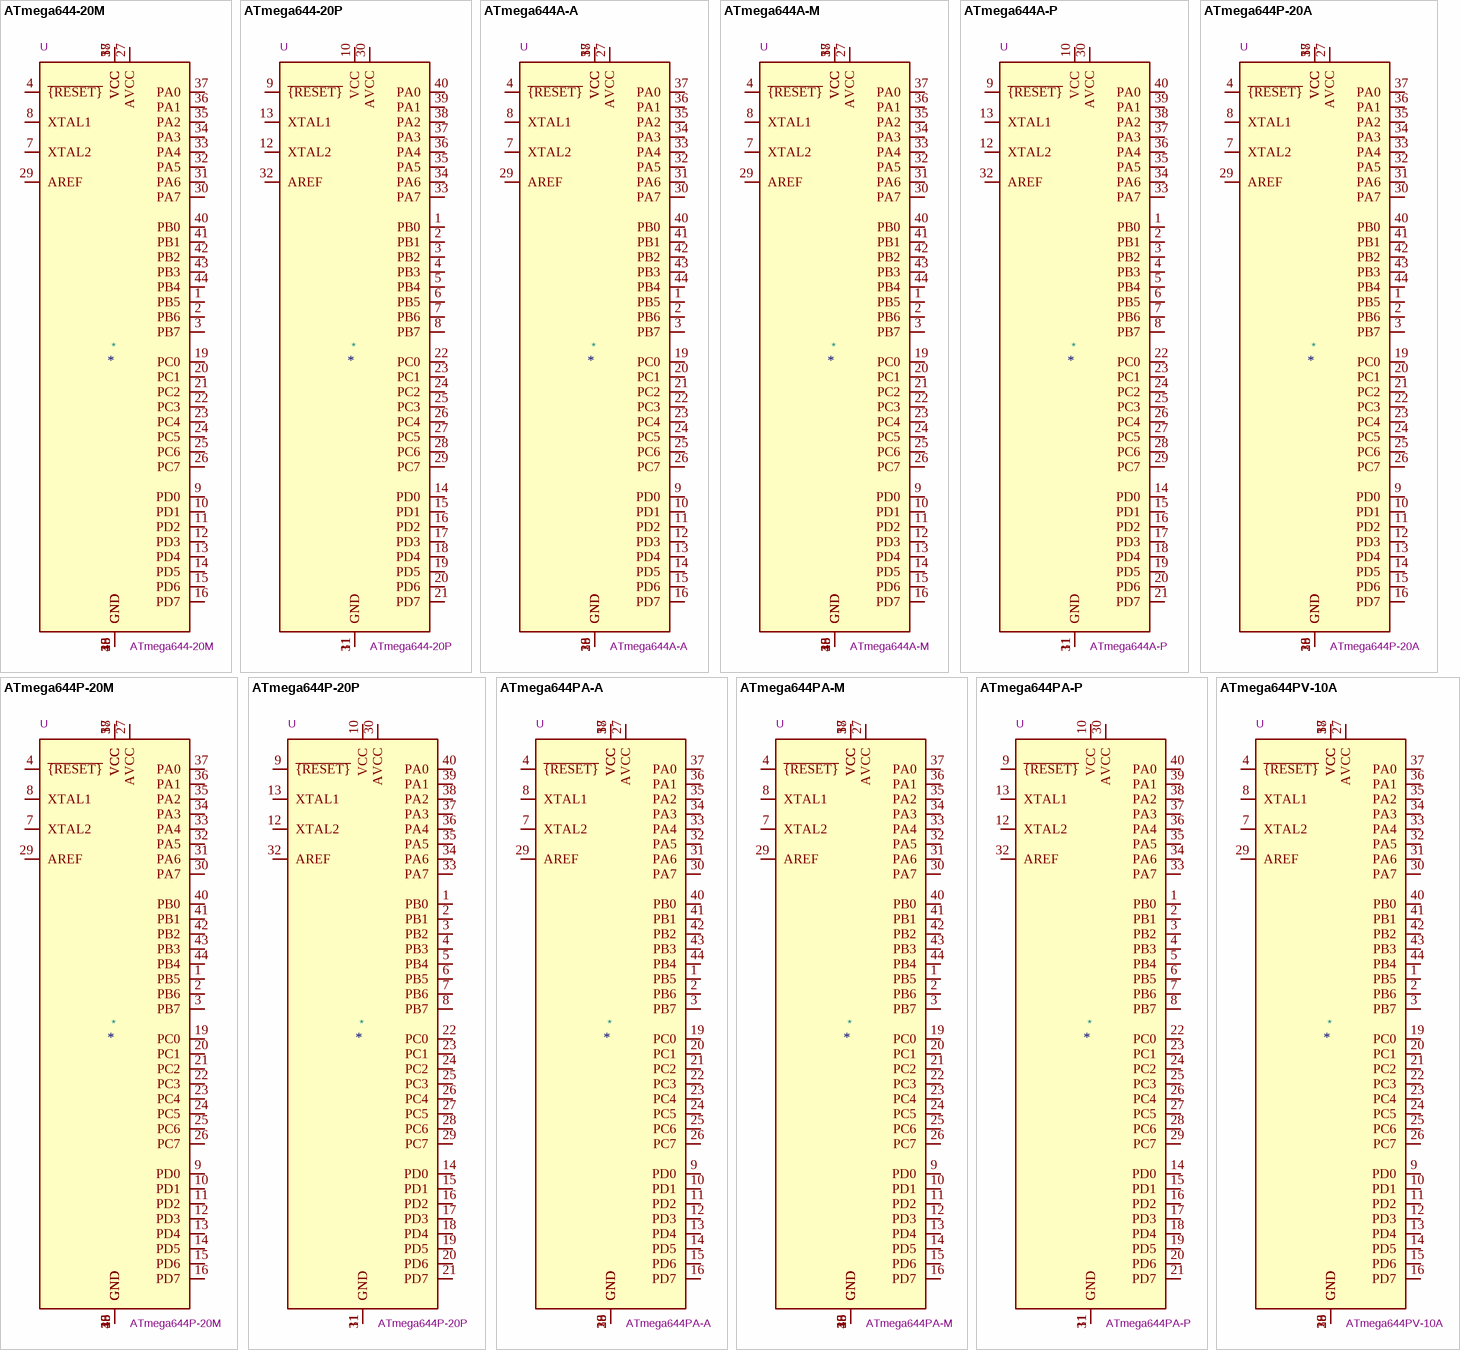
[diagram p19: symbols ATmega644-20M to ATmega644PV-10A]

## ATmega644-20M
designator *  value ATmega644-20M  Reference: U
20MHz, 64kB Flash, 4kB SRAM, 2kB EEPROM, JTAG, QFN-44; ki_keywords: AVR 8bit Microcontroller MegaAVR; ki_fp_filters: QFN*1EP*7x7mm*P0.5mm*; Footprint: Package_DFN_QFN:QFN-44-1EP_7x7mm_P0.5mm_EP5.2x5.2mm; Datasheet: http://ww1.microchip.com/downloads/en/DeviceDoc/doc2593.pdf; Description_: 20MHz, 64kB Flash, 4kB SRAM, 2kB EEPROM, JTAG, QFN-44
pins: 1 PB5, 2 PB6, 3 PB7, 4 ~{{RESET}}, 5 VCC, 6 GND, 7 XTAL2, 8 XTAL1, 9 PD0, 10 PD1, 11 PD2, 12 PD3, 13 PD4, 14 PD5, 15 PD6, 16 PD7, 17 VCC, 18 GND, 19 PC0, 20 PC1, 21 PC2, 22 PC3, 23 PC4, 24 PC5, 25 PC6, 26 PC7, 27 AVCC, 28 GND, 29 AREF, 30 PA7, 31 PA6, 32 PA5, 33 PA4, 34 PA3, 35 PA2, 36 PA1, 37 PA0, 38 VCC, 39 GND, 40 PB0, 41 PB1, 42 PB2, 43 PB3, 44 PB4, 45 GND

## ATmega644-20P
designator *  value ATmega644-20P  Reference: U
20MHz, 64kB Flash, 4kB SRAM, 2kB EEPROM, JTAG, DIP-40; ki_keywords: AVR 8bit Microcontroller MegaAVR; ki_fp_filters: DIP*W15.24mm*; Footprint: Package_DIP:DIP-40_W15.24mm; Datasheet: http://ww1.microchip.com/downloads/en/DeviceDoc/doc2593.pdf; Description_: 20MHz, 64kB Flash, 4kB SRAM, 2kB EEPROM, JTAG, DIP-40
pins: 1 PB0, 2 PB1, 3 PB2, 4 PB3, 5 PB4, 6 PB5, 7 PB6, 8 PB7, 9 ~{{RESET}}, 10 VCC, 11 GND, 12 XTAL2, 13 XTAL1, 14 PD0, 15 PD1, 16 PD2, 17 PD3, 18 PD4, 19 PD5, 20 PD6, 21 PD7, 22 PC0, 23 PC1, 24 PC2, 25 PC3, 26 PC4, 27 PC5, 28 PC6, 29 PC7, 30 AVCC, 31 GND, 32 AREF, 33 PA7, 34 PA6, 35 PA5, 36 PA4, 37 PA3, 38 PA2, 39 PA1, 40 PA0

## ATmega644A-A
designator *  value ATmega644A-A  Reference: U
20MHz, 64kB Flash, 4kB SRAM, 2kB EEPROM, JTAG, TQFP-44; ki_keywords: AVR 8bit Microcontroller MegaAVR; ki_fp_filters: TQFP*10x10mm*P0.8mm*; Footprint: Package_QFP:TQFP-44_10x10mm_P0.8mm; Datasheet: http://ww1.microchip.com/downloads/en/DeviceDoc/Atmel-8272-8-bit-AVR-microcontroller-ATmega164A_PA-324A_PA-644A_PA-1284_P_datasheet.pdf; Description_: 20MHz, 64kB Flash, 4kB SRAM, 2kB EEPROM, JTAG, TQFP-44
pins: 1 PB5, 2 PB6, 3 PB7, 4 ~{{RESET}}, 5 VCC, 6 GND, 7 XTAL2, 8 XTAL1, 9 PD0, 10 PD1, 11 PD2, 12 PD3, 13 PD4, 14 PD5, 15 PD6, 16 PD7, 17 VCC, 18 GND, 19 PC0, 20 PC1, 21 PC2, 22 PC3, 23 PC4, 24 PC5, 25 PC6, 26 PC7, 27 AVCC, 28 GND, 29 AREF, 30 PA7, 31 PA6, 32 PA5, 33 PA4, 34 PA3, 35 PA2, 36 PA1, 37 PA0, 38 VCC, 39 GND, 40 PB0, 41 PB1, 42 PB2, 43 PB3, 44 PB4

## ATmega644A-M
designator *  value ATmega644A-M  Reference: U
20MHz, 64kB Flash, 4kB SRAM, 2kB EEPROM, JTAG, QFN-44; ki_keywords: AVR 8bit Microcontroller MegaAVR; ki_fp_filters: QFN*1EP*7x7mm*P0.5mm*; Footprint: Package_DFN_QFN:QFN-44-1EP_7x7mm_P0.5mm_EP5.2x5.2mm; Datasheet: http://ww1.microchip.com/downloads/en/DeviceDoc/Atmel-8272-8-bit-AVR-microcontroller-ATmega164A_PA-324A_PA-644A_PA-1284_P_datasheet.pdf; Description_: 20MHz, 64kB Flash, 4kB SRAM, 2kB EEPROM, JTAG, QFN-44
pins: 1 PB5, 2 PB6, 3 PB7, 4 ~{{RESET}}, 5 VCC, 6 GND, 7 XTAL2, 8 XTAL1, 9 PD0, 10 PD1, 11 PD2, 12 PD3, 13 PD4, 14 PD5, 15 PD6, 16 PD7, 17 VCC, 18 GND, 19 PC0, 20 PC1, 21 PC2, 22 PC3, 23 PC4, 24 PC5, 25 PC6, 26 PC7, 27 AVCC, 28 GND, 29 AREF, 30 PA7, 31 PA6, 32 PA5, 33 PA4, 34 PA3, 35 PA2, 36 PA1, 37 PA0, 38 VCC, 39 GND, 40 PB0, 41 PB1, 42 PB2, 43 PB3, 44 PB4, 45 GND

## ATmega644A-P
designator *  value ATmega644A-P  Reference: U
20MHz, 64kB Flash, 4kB SRAM, 2kB EEPROM, JTAG, DIP-40; ki_keywords: AVR 8bit Microcontroller MegaAVR; ki_fp_filters: DIP*W15.24mm*; Footprint: Package_DIP:DIP-40_W15.24mm; Datasheet: http://ww1.microchip.com/downloads/en/DeviceDoc/Atmel-8272-8-bit-AVR-microcontroller-ATmega164A_PA-324A_PA-644A_PA-1284_P_datasheet.pdf; Description_: 20MHz, 64kB Flash, 4kB SRAM, 2kB EEPROM, JTAG, DIP-40
pins: 1 PB0, 2 PB1, 3 PB2, 4 PB3, 5 PB4, 6 PB5, 7 PB6, 8 PB7, 9 ~{{RESET}}, 10 VCC, 11 GND, 12 XTAL2, 13 XTAL1, 14 PD0, 15 PD1, 16 PD2, 17 PD3, 18 PD4, 19 PD5, 20 PD6, 21 PD7, 22 PC0, 23 PC1, 24 PC2, 25 PC3, 26 PC4, 27 PC5, 28 PC6, 29 PC7, 30 AVCC, 31 GND, 32 AREF, 33 PA7, 34 PA6, 35 PA5, 36 PA4, 37 PA3, 38 PA2, 39 PA1, 40 PA0

## ATmega644P-20A
designator *  value ATmega644P-20A  Reference: U
20MHz, 64kB Flash, 4kB SRAM, 2kB EEPROM, JTAG, TQFP-44; ki_keywords: AVR 8bit Microcontroller MegaAVR PicoPower; ki_fp_filters: TQFP*10x10mm*P0.8mm*; Footprint: Package_QFP:TQFP-44_10x10mm_P0.8mm; Datasheet: http://ww1.microchip.com/downloads/en/DeviceDoc/Atmel-42744-ATmega644P_Datasheet.pdf; Description_: 20MHz, 64kB Flash, 4kB SRAM, 2kB EEPROM, JTAG, TQFP-44
pins: 1 PB5, 2 PB6, 3 PB7, 4 ~{{RESET}}, 5 VCC, 6 GND, 7 XTAL2, 8 XTAL1, 9 PD0, 10 PD1, 11 PD2, 12 PD3, 13 PD4, 14 PD5, 15 PD6, 16 PD7, 17 VCC, 18 GND, 19 PC0, 20 PC1, 21 PC2, 22 PC3, 23 PC4, 24 PC5, 25 PC6, 26 PC7, 27 AVCC, 28 GND, 29 AREF, 30 PA7, 31 PA6, 32 PA5, 33 PA4, 34 PA3, 35 PA2, 36 PA1, 37 PA0, 38 VCC, 39 GND, 40 PB0, 41 PB1, 42 PB2, 43 PB3, 44 PB4

## ATmega644P-20M
designator *  value ATmega644P-20M  Reference: U
20MHz, 64kB Flash, 4kB SRAM, 2kB EEPROM, JTAG, QFN-44; ki_keywords: AVR 8bit Microcontroller MegaAVR PicoPower; ki_fp_filters: QFN*1EP*7x7mm*P0.5mm*; Footprint: Package_DFN_QFN:QFN-44-1EP_7x7mm_P0.5mm_EP5.2x5.2mm; Datasheet: http://ww1.microchip.com/downloads/en/DeviceDoc/Atmel-42744-ATmega644P_Datasheet.pdf; Description_: 20MHz, 64kB Flash, 4kB SRAM, 2kB EEPROM, JTAG, QFN-44
pins: 1 PB5, 2 PB6, 3 PB7, 4 ~{{RESET}}, 5 VCC, 6 GND, 7 XTAL2, 8 XTAL1, 9 PD0, 10 PD1, 11 PD2, 12 PD3, 13 PD4, 14 PD5, 15 PD6, 16 PD7, 17 VCC, 18 GND, 19 PC0, 20 PC1, 21 PC2, 22 PC3, 23 PC4, 24 PC5, 25 PC6, 26 PC7, 27 AVCC, 28 GND, 29 AREF, 30 PA7, 31 PA6, 32 PA5, 33 PA4, 34 PA3, 35 PA2, 36 PA1, 37 PA0, 38 VCC, 39 GND, 40 PB0, 41 PB1, 42 PB2, 43 PB3, 44 PB4, 45 GND

## ATmega644P-20P
designator *  value ATmega644P-20P  Reference: U
20MHz, 64kB Flash, 4kB SRAM, 2kB EEPROM, JTAG, DIP-40; ki_keywords: AVR 8bit Microcontroller MegaAVR PicoPower; ki_fp_filters: DIP*W15.24mm*; Footprint: Package_DIP:DIP-40_W15.24mm; Datasheet: http://ww1.microchip.com/downloads/en/DeviceDoc/Atmel-42744-ATmega644P_Datasheet.pdf; Description_: 20MHz, 64kB Flash, 4kB SRAM, 2kB EEPROM, JTAG, DIP-40
pins: 1 PB0, 2 PB1, 3 PB2, 4 PB3, 5 PB4, 6 PB5, 7 PB6, 8 PB7, 9 ~{{RESET}}, 10 VCC, 11 GND, 12 XTAL2, 13 XTAL1, 14 PD0, 15 PD1, 16 PD2, 17 PD3, 18 PD4, 19 PD5, 20 PD6, 21 PD7, 22 PC0, 23 PC1, 24 PC2, 25 PC3, 26 PC4, 27 PC5, 28 PC6, 29 PC7, 30 AVCC, 31 GND, 32 AREF, 33 PA7, 34 PA6, 35 PA5, 36 PA4, 37 PA3, 38 PA2, 39 PA1, 40 PA0

## ATmega644PA-A
designator *  value ATmega644PA-A  Reference: U
20MHz, 64kB Flash, 4kB SRAM, 2kB EEPROM, JTAG, TQFP-44; ki_keywords: AVR 8bit Microcontroller MegaAVR PicoPower; ki_fp_filters: TQFP*10x10mm*P0.8mm*; Footprint: Package_QFP:TQFP-44_10x10mm_P0.8mm; Datasheet: http://ww1.microchip.com/downloads/en/DeviceDoc/Atmel-8272-8-bit-AVR-microcontroller-ATmega164A_PA-324A_PA-644A_PA-1284_P_datasheet.pdf; Description_: 20MHz, 64kB Flash, 4kB SRAM, 2kB EEPROM, JTAG, TQFP-44
pins: 1 PB5, 2 PB6, 3 PB7, 4 ~{{RESET}}, 5 VCC, 6 GND, 7 XTAL2, 8 XTAL1, 9 PD0, 10 PD1, 11 PD2, 12 PD3, 13 PD4, 14 PD5, 15 PD6, 16 PD7, 17 VCC, 18 GND, 19 PC0, 20 PC1, 21 PC2, 22 PC3, 23 PC4, 24 PC5, 25 PC6, 26 PC7, 27 AVCC, 28 GND, 29 AREF, 30 PA7, 31 PA6, 32 PA5, 33 PA4, 34 PA3, 35 PA2, 36 PA1, 37 PA0, 38 VCC, 39 GND, 40 PB0, 41 PB1, 42 PB2, 43 PB3, 44 PB4